# Altium integrated library Altera APEX 20K.IntLib: 93 symbols (part 12 of 14)
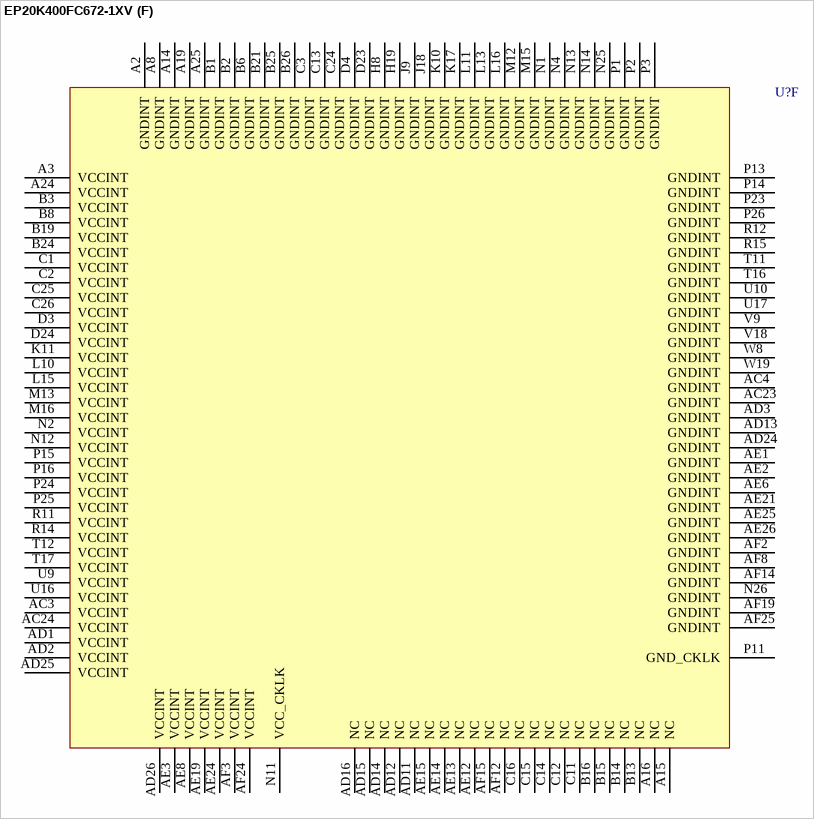
[diagram p210: symbol EP20K400FC672-1XV]

## EP20K400FC672-1XV
designator U?
APEX 20K400 PLD with PLLs and 5 V tolerant inputs, 672-Pin FBGA, Commercial Grade, Speed Grade 1; ComponentAvailability: Last order accepted - 22-Jul-2005; Published: 17-Jul-2002; LatestRevisionDate: 13-Apr-2006; LatestRevisionNote: IPC-7351 Footprint Added.; DatasheetVersion: Mar-2004; PackageVersion: ver14.1, Oct-2005; PackageReference: FBGA672; Publisher: Altium Limited; PackageDescription: 672-Ball FineLine Ball Grid Array (FBGA672) - Flip Chip; Code_JEDEC: MS-034-AAL-1; ComponentLink1Description: Manufacturer Link; ComponentLink1URL: http://www.altera.com/products/devices/apex/apx-index.html; ComponentLink2Description: Datasheet; ComponentLink2URL: http://www.altera.com/literature/ds/apex.pdf; ComponentLink3Description: Discontinuation Notice; ComponentLink3URL: http://www.altera.com/literature/pcn/pdn0401.pdf
footprint FBGA672 (BGA, 672-Leads, Body 27x27mm, Pitch 1mm)
3D model EP20K400-FBGA672T (672-Ball FineLine Ball Grid Array (FBGA672) - Flip Chip)
part A pins: A4 IO (io), A5 IO (io), A6 VCCIO (power), A7 IO (io), A9 IO (io), A10 IO (io), A11 IO (io), A12 IO (io), A13 VCCIO (power), A17 IO (io), A18 IO (io), A20 IO (io), A22 IO (io), A23 IO (io), B4 IO (io), B5 IO (io), B7 IO (io), B9 IO (io), B10 IO (io), B11 IO (io), B12 IO (io), B17 IO (io), B18 IO (io), B20 IO (io), B22 IO (io), B23 IO (io), C5 IO (io), C6 IO (io), C7 IO (io), C8 IO (io), C9 IO (io), C10 IO (io), C17 IO (io), C18 IO (io), C19 IO (io), C20 IO (io), C21 IO (io), C22 IO (io), C23 IO (io), D6 IO (io), D7 IO (io), D8 IO (io), D9 IO (io), D10 IO (io), D11 IO (io), D12 IO (io), D13 IO (io), D14 IO (io), D15 IO (io), D16 IO (io), D17 IO (io), D18 IO (io), D19 IO (io), D20 IO (io), D21 IO (io), D22 IO (io), E6 IO (io), E7 IO (io), E8 IO (io), E9 IO (io), E10 IO (io), E11 IO (io), E12 IO (io), E13 IO (io), E14 IO (io), E15 IO (io), E16 IO (io), E17 IO (io), E18 IO (io), E19 IO (io), E20 IO (io), E21 IO (io), E23 IO (io), E24 IO (io), F6 DATA5 (io), F7 IO (io), F8 IO (io), F9 IO (io), F10 DATA3 (io), F11 IO (io), F12 IO (io), F13 INPUT2 (in), F15 IO (io), F16 IO (io), F17 IO (io), F18 IO (io), F19 IO (io), F20 IO (io), F23 IO (io), F24 IO (io), G9 DATA4 (io), G10 IO (io), G11 IO (io), G12 IO (io), G15 IO (io), G16 IO (io), G17 IO (io), G18 IO (io), G19 IO (io), G23 IO (io), H10 IO (io), H11 IO (io), H12 IO (io), H13 IO (io), H14 INPUT1 (in), H15 IO (io), H16 IO (io), H17 IO (io), H18 IO (io), H23 IO (io), J10 VCCIO (power), J11 IO (io), J12 DATA2 (io), J13 IO (io), J14 RDYnBSY (io), J15 INIT_DONE (io), J16 IO (io), J17 IO (io), J19 IO (io), K12 IO (io), K13 DATA1 (io), K14 CLKUSR (io), K15 IO (io), K16 VCCIO (power), K18 IO (io), L12 VCCIO (power), L14 IO (io), M14 VCCIO (power)
part B pins: A21 VCCIO (power), AA21 IO (io), AA22 IO (io), AA25 IO (io), AA26 IO (io), AB21 IO (io), AB22 IO (io), AB25 IO (io), AB26 IO (io), AC25 IO (io), AC26 IO (io), AF20 IO (io), AF23 IO (io), D25 IO (io), D26 IO (io), E22 IO (io), E25 IO (io), E26 IO (io), F21 IO (io), F22 IO (io), F25 IO (io), F26 IO (io), G20 IO (io), G21 IO (io), G22 IO (io), G24 IO (io), G25 IO (io), G26 IO (io), H20 IO (io), H21 IO (io), H22 IO (io), H24 IO (io), H25 IO (io), H26 IO (io), J20 IO (io), J21 IO (io), J22 IO (io), J23 IO (io), J24 IO (io), J25 IO (io), J26 IO (io), K19 IO (io), K20 IO (io), K21 IO (io), K22 IO (io), K23 IO (io), K24 IO (io), K25 IO (io), K26 IO (io), L17 VCCIO (power), L18 IO (io), L19 IO (io), L20 IO (io), L21 IO (io), L22 IO (io), L23 IO (io), L24 IO (io), L25 IO (io), L26 IO (io), M17 IO (io), M18 IO (io), M19 IO (io), M20 IO (io), M21 IO (io), M22 IO (io), M23 IO (io), M24 IO (io), M25 IO (io), M26 IO (io), N15 VCCIO (power), N16 IO (io), N17 IO (io), N18 IO (io), N19 IO (io), N22 IO (io), N23 IO (io), N24 VCCIO (power), P17 IO (io), P18 IO (io), P19 IO (io), P20 CLK1 (in), P22 IO (io), R16 VCCIO (power), R17 IO (io), R18 IO (io), R19 IO (io), R20 IO (io), R21 IO (io), R22 IO (io), R23 IO (io), R24 IO (io), R25 IO (io), R26 IO (io), T18 IO (io), T19 IO (io), T20 IO (io), T21 IO (io), T22 IO (io), T23 IO (io), T24 IO (io), T25 IO (io), T26 IO (io), U18 VCCIO (power), U19 IO (io), U20 IO (io), U21 IO (io), U22 IO (io), U23 IO (io), U24 IO (io), U25 IO (io), U26 IO (io), V19 IO (io), V20 IO (io), V21 IO (io), V22 IO (io), V23 IO (io), V24 IO (io), V25 IO (io), V26 IO (io), W21 IO (io), W22 IO (io), W23 IO (io), W24 IO (io), W25 IO (io), W26 IO (io), Y21 IO (io), Y22 IO (io), Y25 IO (io), Y26 IO (io)
part C pins: AA3 IO (io), AA4 IO (io), AA8 IO (io), AA9 IO (io), AA10 IO (io), AA11 IO (io), AA16 IO (io), AA17 IO (io), AA18 IO (io), AA19 IO (io), AA20 IO (io), AA23 IO (io), AA24 IO (io), AB3 IO (io), AB4 IO (io), AB7 IO (io), AB8 IO (io), AB9 IO (io), AB10 IO (io), AB11 IO (io), AB12 IO (io), AB13 IO (io), AB14 IO (io), AB15 IO (io), AB16 IO (io), AB17 IO (io), AB18 IO (io), AB19 IO (io), AB20 IO (io), AB23 IO (io), AB24 IO (io), AC5 IO (io), AC6 IO (io), AC7 IO (io), AC8 IO (io), AC9 IO (io), AC10 IO (io), AC11 IO (io), AC12 IO (io), AC13 IO (io), AC14 IO (io), AC15 IO (io), AC16 IO (io), AC17 IO (io), AC18 IO (io), AC19 IO (io), AC20 IO (io), AC21 IO (io), AC22 IO (io), AD4 IO (io), AD5 IO (io), AD6 IO (io), AD7 IO (io), AD8 IO (io), AD9 IO (io), AD10 IO (io), AD17 IO (io), AD18 IO (io), AD19 IO (io), AD20 IO (io), AD21 IO (io), AD22 IO (io), AD23 IO (io), AE4 IO (io), AE5 IO (io), AE7 IO (io), AE9 IO (io), AE10 IO (io), AE11 IO (io), AE16 IO (io), AE17 IO (io), AE18 IO (io), AE20 IO (io), AE22 IO (io), AE23 IO (io), AF4 IO (io), AF5 IO (io), AF7 IO (io), AF9 IO (io), AF10 IO (io), AF11 IO (io), AF13 VCCIO (power), AF16 IO (io), AF17 IO (io), AF18 IO (io), AF21 VCCIO (power), AF22 IO (io), R13 VCCIO (power), T9 IO (io), T13 IO (io), T14 IO (io), T15 VCCIO (power), U11 VCCIO (power), U12 IO (io), U13 IO (io), U14 IO (io), U15 IO (io), V8 IO (io), V10 VCCIO (power), V11 IO (io), V12 IO (io), V13 IO (io), V14 IO (io), V15 IO (io), V16 IO (io), V17 VCCIO (power), W9 IO (io), W10 IO (io), W11 IO (io), W12 IO (io), W13 IO (io), W14 IO (io), W15 IO (io), W16 IO (io), W17 IO (io), W18 IO (io), W20 IO (io), Y3 IO (io), Y4 IO (io), Y7 IO (io), Y8 IO (io), Y9 IO (io), Y10 IO (io), Y11 IO (io), Y12 IO (io), Y13 INPUT4 (in), Y14 INPUT3 (in), Y15 IO (io), Y16 IO (io), Y17 IO (io), Y18 IO (io), Y19 IO (io), Y20 IO (io), Y23 IO (io), Y24 IO (io)
part D pins: AA1 IO (io), AA2 IO (io), AA5 IO (io), AA6 IO (io), AA7 IO (io), AB1 IO (io), AB2 IO (io), AB5 IO (io), AB6 IO (io), AC1 IO (io), AC2 IO (io), AF6 VCCIO (power), C4 IO (io), D1 IO (io), D2 IO (io), D5 IO (io), E1 IO (io), E2 IO (io), E3 IO (io), E4 IO (io), E5 IO (io), F1 IO (io), F2 IO (io), F3 IO (io), F4 IO (io), F5 IO (io), G1 IO (io), G2 IO (io), G3 IO (io), G4 IO (io), G5 IO (io), G6 IO (io), G7 IO (io), G8 IO (io), H1 IO (io), H2 IO (io), H3 IO (io), H4 IO (io), H5 IO (io), H6 IO (io), H7 IO (io), H9 IO (io), J1 IO (io), J2 IO (io), J3 IO (io), J4 IO (io), J5 IO (io), J6 IO (io), J7 IO (io), J8 IO (io), K1 IO (io), K2 IO (io), K3 IO (io), K4 IO (io), K5 IO (io), K6 IO (io), K7 IO (io), K8 IO (io), K9 VCCIO (power), L1 IO (io), L2 IO (io), L3 IO (io), L4 IO (io), L5 IO (io), L6 IO (io), L7 IO (io), L8 DATA6 (io), L9 IO (io), M1 IO (io), M2 IO (io), M3 IO (io), M4 IO (io), M5 IO (io), M6 IO (io), M7 IO (io), M8 IO (io), M9 nCS (io), M10 DATA7 (io), M11 VCCIO (power), N3 VCCIO (power), N5 IO (io), N8 CLK2 (in), N9 IO (io), N10 nRS (io), P4 IO (io), P5 IO (io), P8 IO (io), P9 nWS (io), P10 IO (io), P12 VCCIO (power), R1 IO (io), R2 IO (io), R3 IO (io), R4 IO (io), R5 IO (io), R6 IO (io), R7 IO (io), R8 DEV_OE (io), R9 DEV_CLRn (io), R10 IO (io), T1 IO (io), T2 IO (io), T3 IO (io), T4 IO (io), T5 IO (io), T6 CS (io), T7 IO (io), T8 IO (io), T10 VCCIO (power), U1 IO (io), U2 IO (io), U3 IO (io), U4 IO (io), U5 IO (io), U6 LOCK (io), U7 IO (io), U8 IO (io), V1 IO (io), V2 IO (io), V3 IO (io), V4 IO (io), V5 IO (io), V6 IO (io), V7 IO (io), W1 IO (io), W2 IO (io), W3 IO (io), W4 IO (io), W5 IO (io), W6 IO (io), W7 IO (io), Y1 IO (io), Y2 IO (io), Y5 IO (io), Y6 IO (io)
part E pins: AA12 CONF_DONE (io), AA13 nSTATUS (io), AA14 TCK (in), AA15 TMS (in), F14 TRST (in), G13 TDO (out), G14 nCEO (out), N6 DATA0 (in), N7 DCLK (in), N20 MSEL1 (in), N21 MSEL0 (in), P6 nCE (in), P7 TDI (in), P21 nCONFIG (in)
part F pins: A2 GNDINT (power), A3 VCCINT (power), A8 GNDINT (power), A14 GNDINT (power), A15 NC, A16 NC, A19 GNDINT (power), A24 VCCINT (power), A25 GNDINT (power), AC3 VCCINT (power), AC4 GNDINT (power), AC23 GNDINT (power), AC24 VCCINT (power), AD1 VCCINT (power), AD2 VCCINT (power), AD3 GNDINT (power), AD11 NC, AD12 NC, AD13 GNDINT (power), AD14 NC, AD15 NC, AD16 NC, AD24 GNDINT (power), AD25 VCCINT (power), AD26 VCCINT (power), AE1 GNDINT (power), AE2 GNDINT (power), AE3 VCCINT (power), AE6 GNDINT (power), AE8 VCCINT (power), AE12 NC, AE13 NC, AE14 NC, AE15 NC, AE19 VCCINT (power), AE21 GNDINT (power), AE24 VCCINT (power), AE25 GNDINT (power), AE26 GNDINT (power), AF2 GNDINT (power), AF3 VCCINT (power), AF8 GNDINT (power), AF12 NC, AF14 GNDINT (power), AF15 NC, AF19 GNDINT (power), AF24 VCCINT (power), AF25 GNDINT (power), B1 GNDINT (power), B2 GNDINT (power), B3 VCCINT (power), B6 GNDINT (power), B8 VCCINT (power), B13 NC, B14 NC, B15 NC, B16 NC, B19 VCCINT (power), B21 GNDINT (power), B24 VCCINT (power), B25 GNDINT (power), B26 GNDINT (power), C1 VCCINT (power), C2 VCCINT (power), C3 GNDINT (power), C11 NC, C12 NC, C13 GNDINT (power), C14 NC, C15 NC, C16 NC, C24 GNDINT (power), C25 VCCINT (power), C26 VCCINT (power), D3 VCCINT (power), D4 GNDINT (power), D23 GNDINT (power), D24 VCCINT (power), H8 GNDINT (power), H19 GNDINT (power), J9 GNDINT (power), J18 GNDINT (power), K10 GNDINT (power), K11 VCCINT (power), K17 GNDINT (power), L10 VCCINT (power), L11 GNDINT (power), L13 GNDINT (power), L15 VCCINT (power), L16 GNDINT (power), M12 GNDINT (power), M13 VCCINT (power), M15 GNDINT (power), M16 VCCINT (power), N1 GNDINT (power), N2 VCCINT (power), N4 GNDINT (power), N11 VCC_CKLK (power), N12 VCCINT (power), N13 GNDINT (power), N14 GNDINT (power), N25 GNDINT (power), N26 GNDINT (power), P1 GNDINT (power), P2 GNDINT (power), P3 GNDINT (power), P11 GND_CKLK (power), P13 GNDINT (power), P14 GNDINT (power), P15 VCCINT (power), P16 VCCINT (power), P23 GNDINT (power), P24 VCCINT (power), P25 VCCINT (power), P26 GNDINT (power), R11 VCCINT (power), R12 GNDINT (power), R14 VCCINT (power), R15 GNDINT (power), T11 GNDINT (power), T12 VCCINT (power), T16 GNDINT (power), T17 VCCINT (power), U9 VCCINT (power), U10 GNDINT (power), U16 VCCINT (power), U17 GNDINT (power), V9 GNDINT (power), V18 GNDINT (power), W8 GNDINT (power), W19 GNDINT (power)

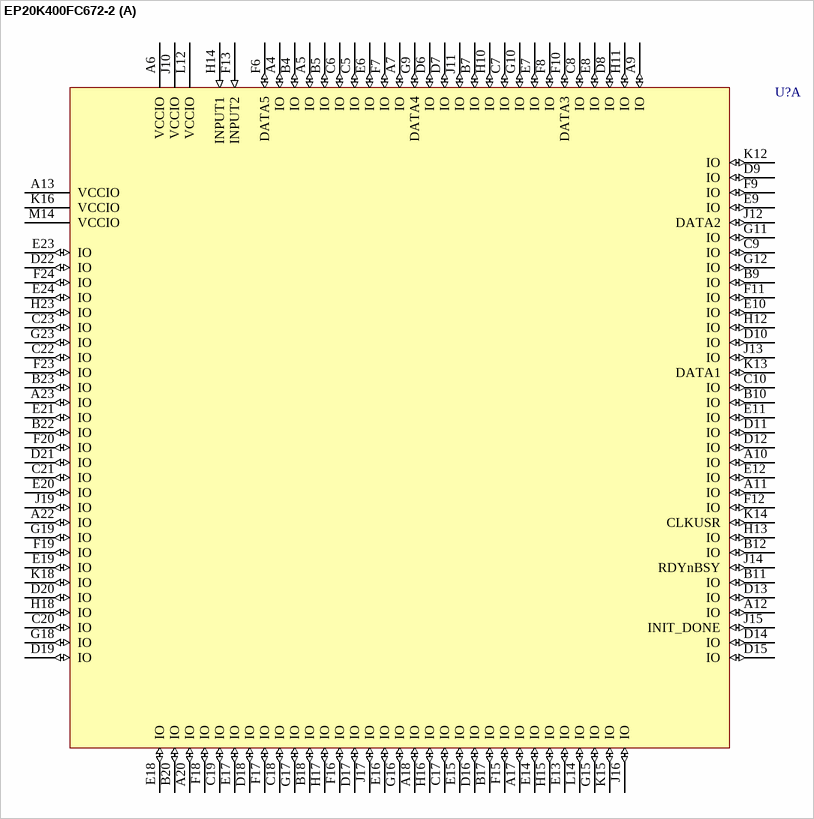
[diagram p153: symbol EP20K400FC672-2]

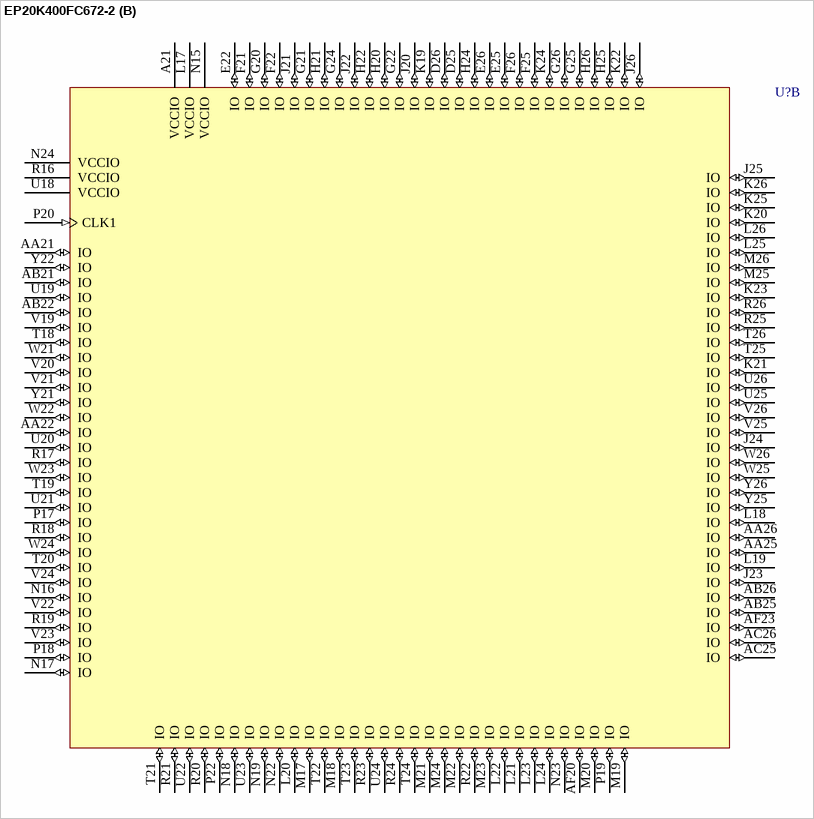
[diagram p154: symbol EP20K400FC672-2]

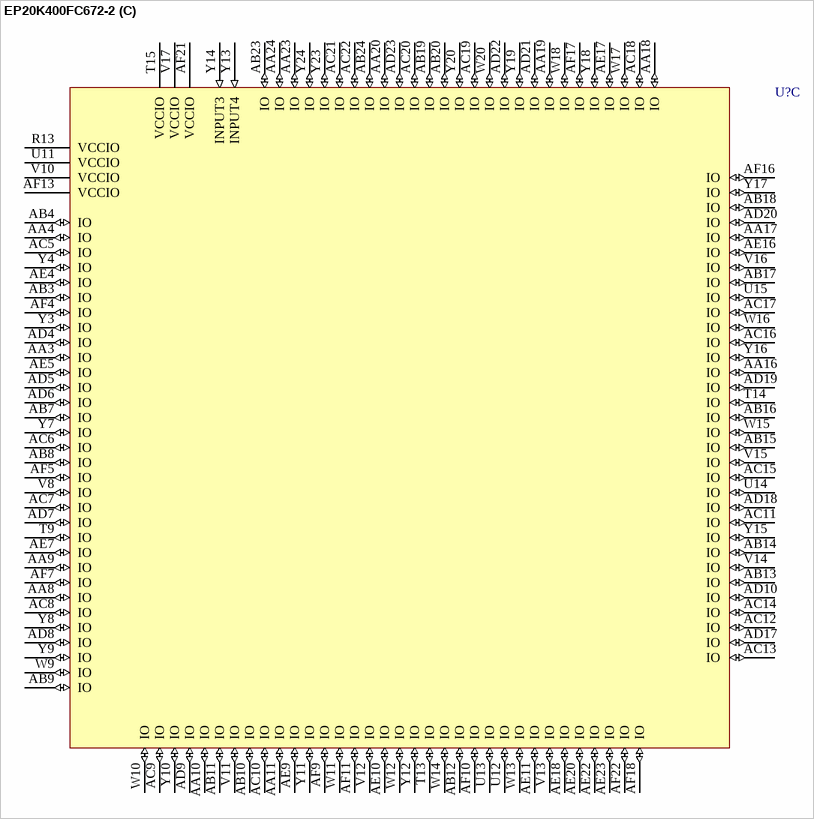
[diagram p155: symbol EP20K400FC672-2]

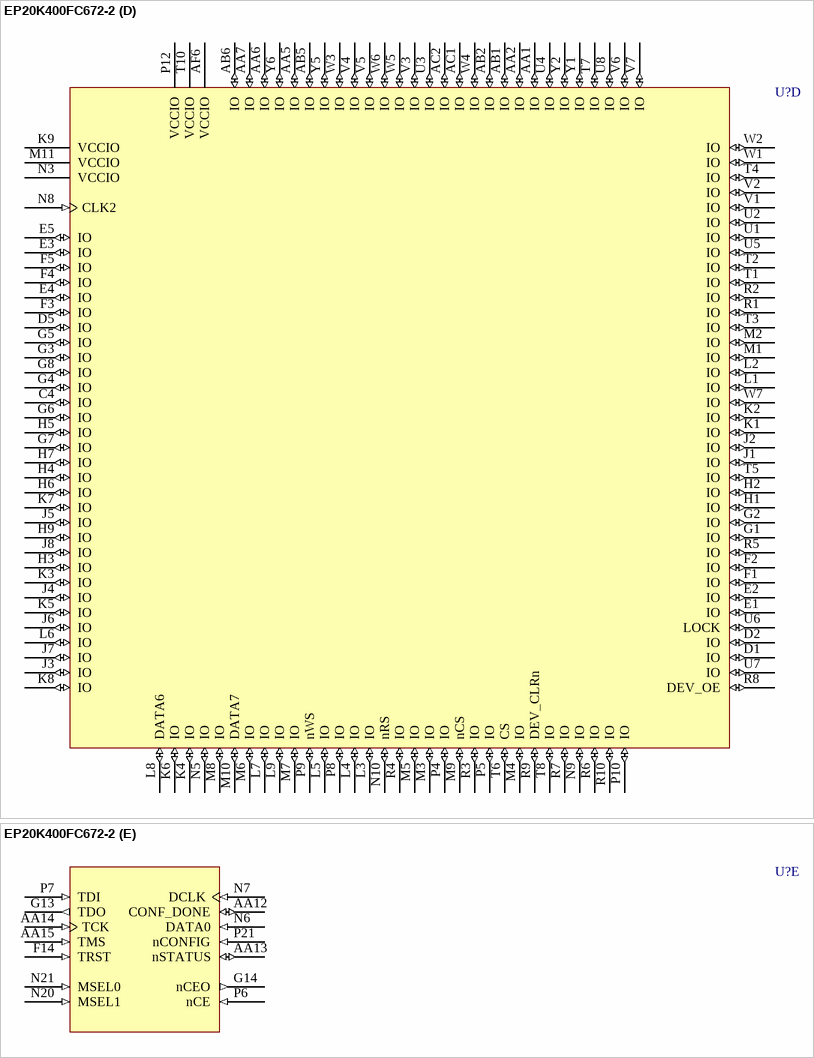
[diagram p156: symbol EP20K400FC672-2]

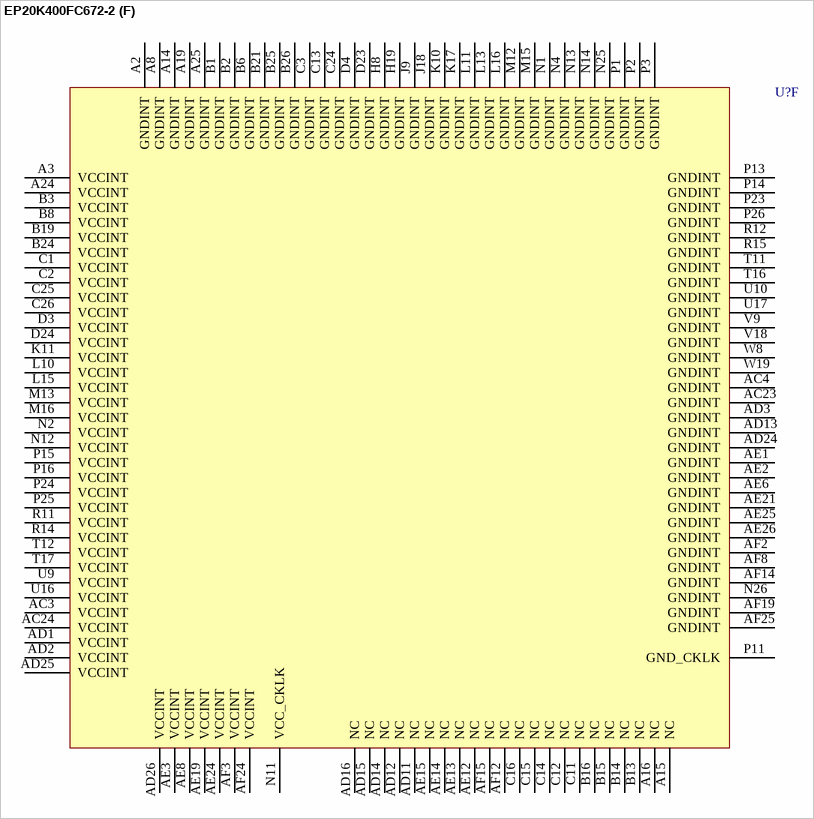
[diagram p157: symbol EP20K400FC672-2]

## EP20K400FC672-2
designator U?
APEX 20K400 PLD, 672-Pin FBGA, Commercial Grade, Speed Grade 2; Published: 17-Jul-2002; LatestRevisionDate: 13-Apr-2006; LatestRevisionNote: IPC-7351 Footprint Added.; DatasheetVersion: Mar-2004; PackageVersion: ver14.1, Oct-2005; PackageReference: FBGA672; Publisher: Altium Limited; PackageDescription: 672-Ball FineLine Ball Grid Array (FBGA672) - Flip Chip; Code_JEDEC: MS-034-AAL-1; ComponentLink1Description: Manufacturer Link; ComponentLink1URL: http://www.altera.com/products/devices/apex/apx-index.html; ComponentLink2Description: Datasheet; ComponentLink2URL: http://www.altera.com/literature/ds/apex.pdf
footprint FBGA672 (BGA, 672-Leads, Body 27x27mm, Pitch 1mm)
3D model EP20K400-FBGA672T (672-Ball FineLine Ball Grid Array (FBGA672) - Flip Chip)
part A pins: A4 IO (io), A5 IO (io), A6 VCCIO (power), A7 IO (io), A9 IO (io), A10 IO (io), A11 IO (io), A12 IO (io), A13 VCCIO (power), A17 IO (io), A18 IO (io), A20 IO (io), A22 IO (io), A23 IO (io), B4 IO (io), B5 IO (io), B7 IO (io), B9 IO (io), B10 IO (io), B11 IO (io), B12 IO (io), B17 IO (io), B18 IO (io), B20 IO (io), B22 IO (io), B23 IO (io), C5 IO (io), C6 IO (io), C7 IO (io), C8 IO (io), C9 IO (io), C10 IO (io), C17 IO (io), C18 IO (io), C19 IO (io), C20 IO (io), C21 IO (io), C22 IO (io), C23 IO (io), D6 IO (io), D7 IO (io), D8 IO (io), D9 IO (io), D10 IO (io), D11 IO (io), D12 IO (io), D13 IO (io), D14 IO (io), D15 IO (io), D16 IO (io), D17 IO (io), D18 IO (io), D19 IO (io), D20 IO (io), D21 IO (io), D22 IO (io), E6 IO (io), E7 IO (io), E8 IO (io), E9 IO (io), E10 IO (io), E11 IO (io), E12 IO (io), E13 IO (io), E14 IO (io), E15 IO (io), E16 IO (io), E17 IO (io), E18 IO (io), E19 IO (io), E20 IO (io), E21 IO (io), E23 IO (io), E24 IO (io), F6 DATA5 (io), F7 IO (io), F8 IO (io), F9 IO (io), F10 DATA3 (io), F11 IO (io), F12 IO (io), F13 INPUT2 (in), F15 IO (io), F16 IO (io), F17 IO (io), F18 IO (io), F19 IO (io), F20 IO (io), F23 IO (io), F24 IO (io), G9 DATA4 (io), G10 IO (io), G11 IO (io), G12 IO (io), G15 IO (io), G16 IO (io), G17 IO (io), G18 IO (io), G19 IO (io), G23 IO (io), H10 IO (io), H11 IO (io), H12 IO (io), H13 IO (io), H14 INPUT1 (in), H15 IO (io), H16 IO (io), H17 IO (io), H18 IO (io), H23 IO (io), J10 VCCIO (power), J11 IO (io), J12 DATA2 (io), J13 IO (io), J14 RDYnBSY (io), J15 INIT_DONE (io), J16 IO (io), J17 IO (io), J19 IO (io), K12 IO (io), K13 DATA1 (io), K14 CLKUSR (io), K15 IO (io), K16 VCCIO (power), K18 IO (io), L12 VCCIO (power), L14 IO (io), M14 VCCIO (power)
part B pins: A21 VCCIO (power), AA21 IO (io), AA22 IO (io), AA25 IO (io), AA26 IO (io), AB21 IO (io), AB22 IO (io), AB25 IO (io), AB26 IO (io), AC25 IO (io), AC26 IO (io), AF20 IO (io), AF23 IO (io), D25 IO (io), D26 IO (io), E22 IO (io), E25 IO (io), E26 IO (io), F21 IO (io), F22 IO (io), F25 IO (io), F26 IO (io), G20 IO (io), G21 IO (io), G22 IO (io), G24 IO (io), G25 IO (io), G26 IO (io), H20 IO (io), H21 IO (io), H22 IO (io), H24 IO (io), H25 IO (io), H26 IO (io), J20 IO (io), J21 IO (io), J22 IO (io), J23 IO (io), J24 IO (io), J25 IO (io), J26 IO (io), K19 IO (io), K20 IO (io), K21 IO (io), K22 IO (io), K23 IO (io), K24 IO (io), K25 IO (io), K26 IO (io), L17 VCCIO (power), L18 IO (io), L19 IO (io), L20 IO (io), L21 IO (io), L22 IO (io), L23 IO (io), L24 IO (io), L25 IO (io), L26 IO (io), M17 IO (io), M18 IO (io), M19 IO (io), M20 IO (io), M21 IO (io), M22 IO (io), M23 IO (io), M24 IO (io), M25 IO (io), M26 IO (io), N15 VCCIO (power), N16 IO (io), N17 IO (io), N18 IO (io), N19 IO (io), N22 IO (io), N23 IO (io), N24 VCCIO (power), P17 IO (io), P18 IO (io), P19 IO (io), P20 CLK1 (in), P22 IO (io), R16 VCCIO (power), R17 IO (io), R18 IO (io), R19 IO (io), R20 IO (io), R21 IO (io), R22 IO (io), R23 IO (io), R24 IO (io), R25 IO (io), R26 IO (io), T18 IO (io), T19 IO (io), T20 IO (io), T21 IO (io), T22 IO (io), T23 IO (io), T24 IO (io), T25 IO (io), T26 IO (io), U18 VCCIO (power), U19 IO (io), U20 IO (io), U21 IO (io), U22 IO (io), U23 IO (io), U24 IO (io), U25 IO (io), U26 IO (io), V19 IO (io), V20 IO (io), V21 IO (io), V22 IO (io), V23 IO (io), V24 IO (io), V25 IO (io), V26 IO (io), W21 IO (io), W22 IO (io), W23 IO (io), W24 IO (io), W25 IO (io), W26 IO (io), Y21 IO (io), Y22 IO (io), Y25 IO (io), Y26 IO (io)
part C pins: AA3 IO (io), AA4 IO (io), AA8 IO (io), AA9 IO (io), AA10 IO (io), AA11 IO (io), AA16 IO (io), AA17 IO (io), AA18 IO (io), AA19 IO (io), AA20 IO (io), AA23 IO (io), AA24 IO (io), AB3 IO (io), AB4 IO (io), AB7 IO (io), AB8 IO (io), AB9 IO (io), AB10 IO (io), AB11 IO (io), AB12 IO (io), AB13 IO (io), AB14 IO (io), AB15 IO (io), AB16 IO (io), AB17 IO (io), AB18 IO (io), AB19 IO (io), AB20 IO (io), AB23 IO (io), AB24 IO (io), AC5 IO (io), AC6 IO (io), AC7 IO (io), AC8 IO (io), AC9 IO (io), AC10 IO (io), AC11 IO (io), AC12 IO (io), AC13 IO (io), AC14 IO (io), AC15 IO (io), AC16 IO (io), AC17 IO (io), AC18 IO (io), AC19 IO (io), AC20 IO (io), AC21 IO (io), AC22 IO (io), AD4 IO (io), AD5 IO (io), AD6 IO (io), AD7 IO (io), AD8 IO (io), AD9 IO (io), AD10 IO (io), AD17 IO (io), AD18 IO (io), AD19 IO (io), AD20 IO (io), AD21 IO (io), AD22 IO (io), AD23 IO (io), AE4 IO (io), AE5 IO (io), AE7 IO (io), AE9 IO (io), AE10 IO (io), AE11 IO (io), AE16 IO (io), AE17 IO (io), AE18 IO (io), AE20 IO (io), AE22 IO (io), AE23 IO (io), AF4 IO (io), AF5 IO (io), AF7 IO (io), AF9 IO (io), AF10 IO (io), AF11 IO (io), AF13 VCCIO (power), AF16 IO (io), AF17 IO (io), AF18 IO (io), AF21 VCCIO (power), AF22 IO (io), R13 VCCIO (power), T9 IO (io), T13 IO (io), T14 IO (io), T15 VCCIO (power), U11 VCCIO (power), U12 IO (io), U13 IO (io), U14 IO (io), U15 IO (io), V8 IO (io), V10 VCCIO (power), V11 IO (io), V12 IO (io), V13 IO (io), V14 IO (io), V15 IO (io), V16 IO (io), V17 VCCIO (power), W9 IO (io), W10 IO (io), W11 IO (io), W12 IO (io), W13 IO (io), W14 IO (io), W15 IO (io), W16 IO (io), W17 IO (io), W18 IO (io), W20 IO (io), Y3 IO (io), Y4 IO (io), Y7 IO (io), Y8 IO (io), Y9 IO (io), Y10 IO (io), Y11 IO (io), Y12 IO (io), Y13 INPUT4 (in), Y14 INPUT3 (in), Y15 IO (io), Y16 IO (io), Y17 IO (io), Y18 IO (io), Y19 IO (io), Y20 IO (io), Y23 IO (io), Y24 IO (io)
part D pins: AA1 IO (io), AA2 IO (io), AA5 IO (io), AA6 IO (io), AA7 IO (io), AB1 IO (io), AB2 IO (io), AB5 IO (io), AB6 IO (io), AC1 IO (io), AC2 IO (io), AF6 VCCIO (power), C4 IO (io), D1 IO (io), D2 IO (io), D5 IO (io), E1 IO (io), E2 IO (io), E3 IO (io), E4 IO (io), E5 IO (io), F1 IO (io), F2 IO (io), F3 IO (io), F4 IO (io), F5 IO (io), G1 IO (io), G2 IO (io), G3 IO (io), G4 IO (io), G5 IO (io), G6 IO (io), G7 IO (io), G8 IO (io), H1 IO (io), H2 IO (io), H3 IO (io), H4 IO (io), H5 IO (io), H6 IO (io), H7 IO (io), H9 IO (io), J1 IO (io), J2 IO (io), J3 IO (io), J4 IO (io), J5 IO (io), J6 IO (io), J7 IO (io), J8 IO (io), K1 IO (io), K2 IO (io), K3 IO (io), K4 IO (io), K5 IO (io), K6 IO (io), K7 IO (io), K8 IO (io), K9 VCCIO (power), L1 IO (io), L2 IO (io), L3 IO (io), L4 IO (io), L5 IO (io), L6 IO (io), L7 IO (io), L8 DATA6 (io), L9 IO (io), M1 IO (io), M2 IO (io), M3 IO (io), M4 IO (io), M5 IO (io), M6 IO (io), M7 IO (io), M8 IO (io), M9 nCS (io), M10 DATA7 (io), M11 VCCIO (power), N3 VCCIO (power), N5 IO (io), N8 CLK2 (in), N9 IO (io), N10 nRS (io), P4 IO (io), P5 IO (io), P8 IO (io), P9 nWS (io), P10 IO (io), P12 VCCIO (power), R1 IO (io), R2 IO (io), R3 IO (io), R4 IO (io), R5 IO (io), R6 IO (io), R7 IO (io), R8 DEV_OE (io), R9 DEV_CLRn (io), R10 IO (io), T1 IO (io), T2 IO (io), T3 IO (io), T4 IO (io), T5 IO (io), T6 CS (io), T7 IO (io), T8 IO (io), T10 VCCIO (power), U1 IO (io), U2 IO (io), U3 IO (io), U4 IO (io), U5 IO (io), U6 LOCK (io), U7 IO (io), U8 IO (io), V1 IO (io), V2 IO (io), V3 IO (io), V4 IO (io), V5 IO (io), V6 IO (io), V7 IO (io), W1 IO (io), W2 IO (io), W3 IO (io), W4 IO (io), W5 IO (io), W6 IO (io), W7 IO (io), Y1 IO (io), Y2 IO (io), Y5 IO (io), Y6 IO (io)
part E pins: AA12 CONF_DONE (io), AA13 nSTATUS (io), AA14 TCK (in), AA15 TMS (in), F14 TRST (in), G13 TDO (out), G14 nCEO (out), N6 DATA0 (in), N7 DCLK (in), N20 MSEL1 (in), N21 MSEL0 (in), P6 nCE (in), P7 TDI (in), P21 nCONFIG (in)
part F pins: A2 GNDINT (power), A3 VCCINT (power), A8 GNDINT (power), A14 GNDINT (power), A15 NC, A16 NC, A19 GNDINT (power), A24 VCCINT (power), A25 GNDINT (power), AC3 VCCINT (power), AC4 GNDINT (power), AC23 GNDINT (power), AC24 VCCINT (power), AD1 VCCINT (power), AD2 VCCINT (power), AD3 GNDINT (power), AD11 NC, AD12 NC, AD13 GNDINT (power), AD14 NC, AD15 NC, AD16 NC, AD24 GNDINT (power), AD25 VCCINT (power), AD26 VCCINT (power), AE1 GNDINT (power), AE2 GNDINT (power), AE3 VCCINT (power), AE6 GNDINT (power), AE8 VCCINT (power), AE12 NC, AE13 NC, AE14 NC, AE15 NC, AE19 VCCINT (power), AE21 GNDINT (power), AE24 VCCINT (power), AE25 GNDINT (power), AE26 GNDINT (power), AF2 GNDINT (power), AF3 VCCINT (power), AF8 GNDINT (power), AF12 NC, AF14 GNDINT (power), AF15 NC, AF19 GNDINT (power), AF24 VCCINT (power), AF25 GNDINT (power), B1 GNDINT (power), B2 GNDINT (power), B3 VCCINT (power), B6 GNDINT (power), B8 VCCINT (power), B13 NC, B14 NC, B15 NC, B16 NC, B19 VCCINT (power), B21 GNDINT (power), B24 VCCINT (power), B25 GNDINT (power), B26 GNDINT (power), C1 VCCINT (power), C2 VCCINT (power), C3 GNDINT (power), C11 NC, C12 NC, C13 GNDINT (power), C14 NC, C15 NC, C16 NC, C24 GNDINT (power), C25 VCCINT (power), C26 VCCINT (power), D3 VCCINT (power), D4 GNDINT (power), D23 GNDINT (power), D24 VCCINT (power), H8 GNDINT (power), H19 GNDINT (power), J9 GNDINT (power), J18 GNDINT (power), K10 GNDINT (power), K11 VCCINT (power), K17 GNDINT (power), L10 VCCINT (power), L11 GNDINT (power), L13 GNDINT (power), L15 VCCINT (power), L16 GNDINT (power), M12 GNDINT (power), M13 VCCINT (power), M15 GNDINT (power), M16 VCCINT (power), N1 GNDINT (power), N2 VCCINT (power), N4 GNDINT (power), N11 VCC_CKLK (power), N12 VCCINT (power), N13 GNDINT (power), N14 GNDINT (power), N25 GNDINT (power), N26 GNDINT (power), P1 GNDINT (power), P2 GNDINT (power), P3 GNDINT (power), P11 GND_CKLK (power), P13 GNDINT (power), P14 GNDINT (power), P15 VCCINT (power), P16 VCCINT (power), P23 GNDINT (power), P24 VCCINT (power), P25 VCCINT (power), P26 GNDINT (power), R11 VCCINT (power), R12 GNDINT (power), R14 VCCINT (power), R15 GNDINT (power), T11 GNDINT (power), T12 VCCINT (power), T16 GNDINT (power), T17 VCCINT (power), U9 VCCINT (power), U10 GNDINT (power), U16 VCCINT (power), U17 GNDINT (power), V9 GNDINT (power), V18 GNDINT (power), W8 GNDINT (power), W19 GNDINT (power)

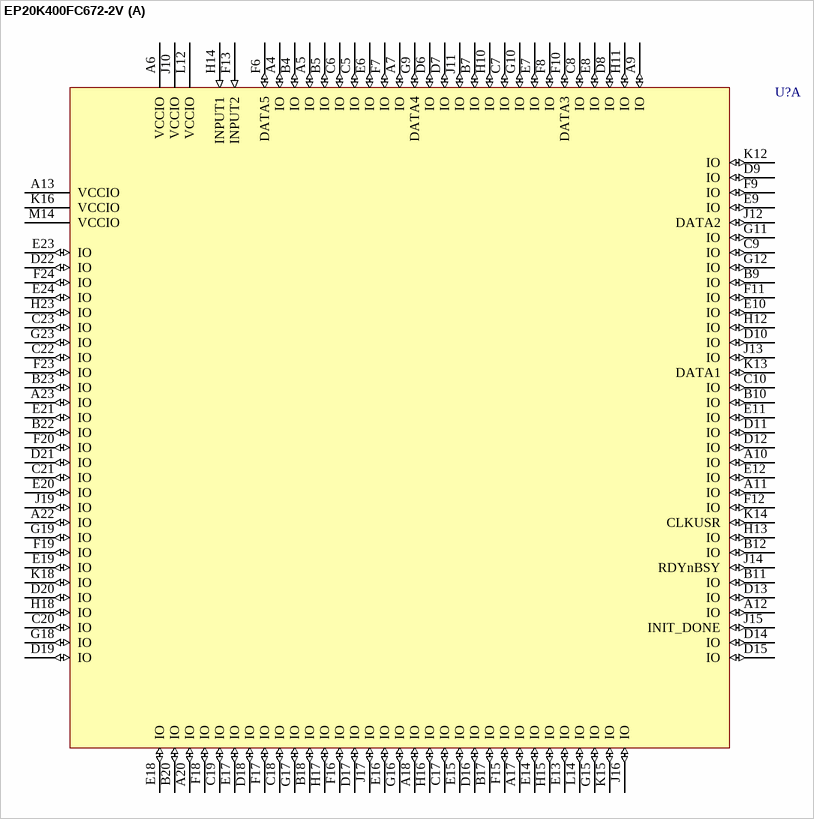
[diagram p158: symbol EP20K400FC672-2V]

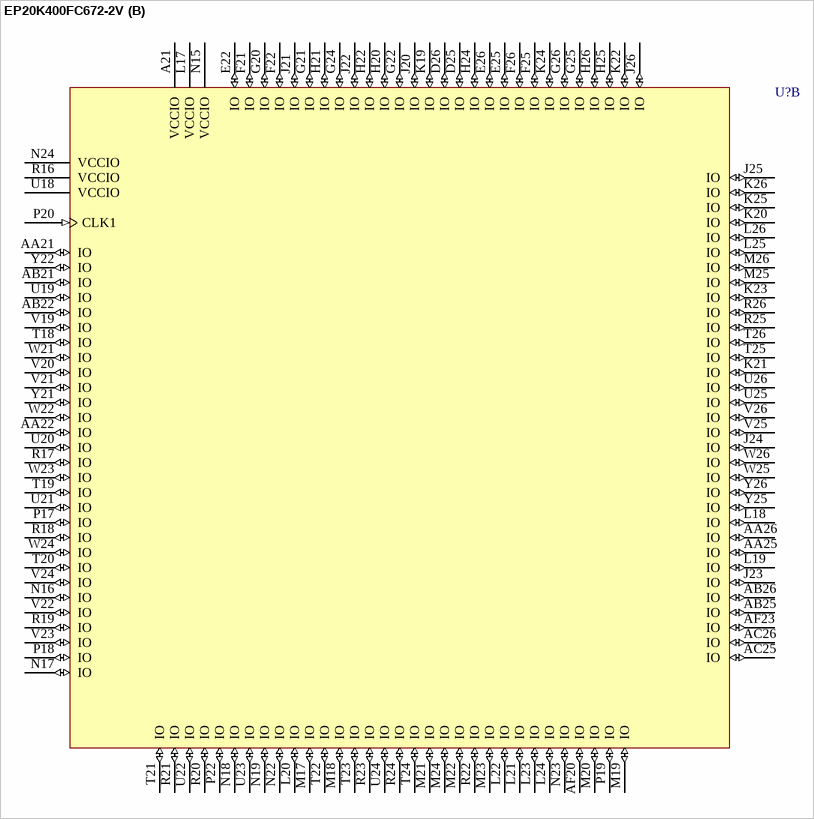
[diagram p159: symbol EP20K400FC672-2V]

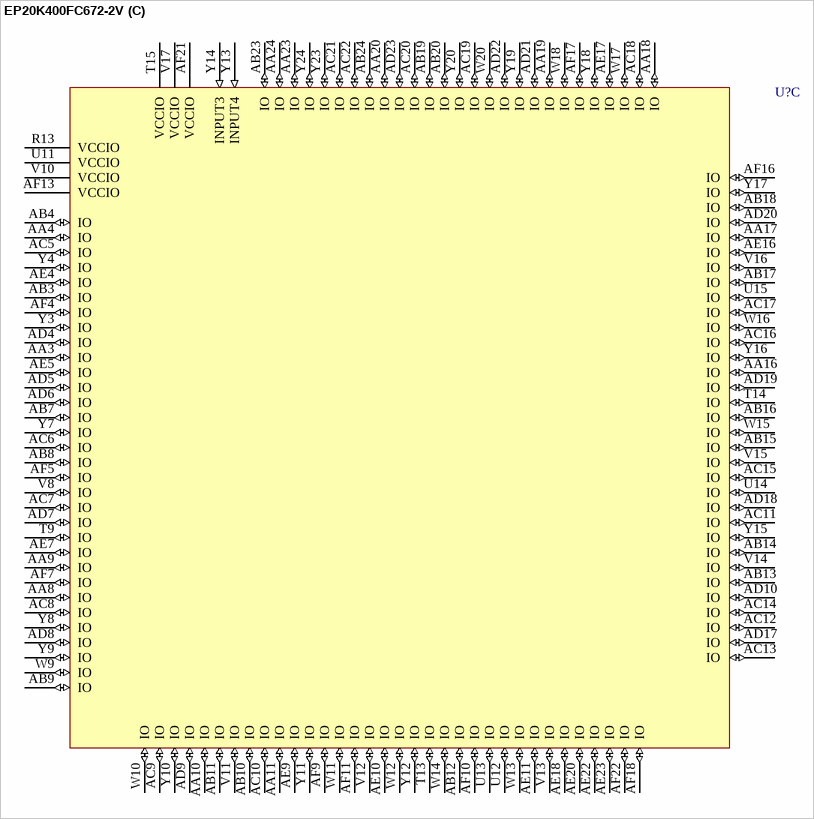
[diagram p160: symbol EP20K400FC672-2V]

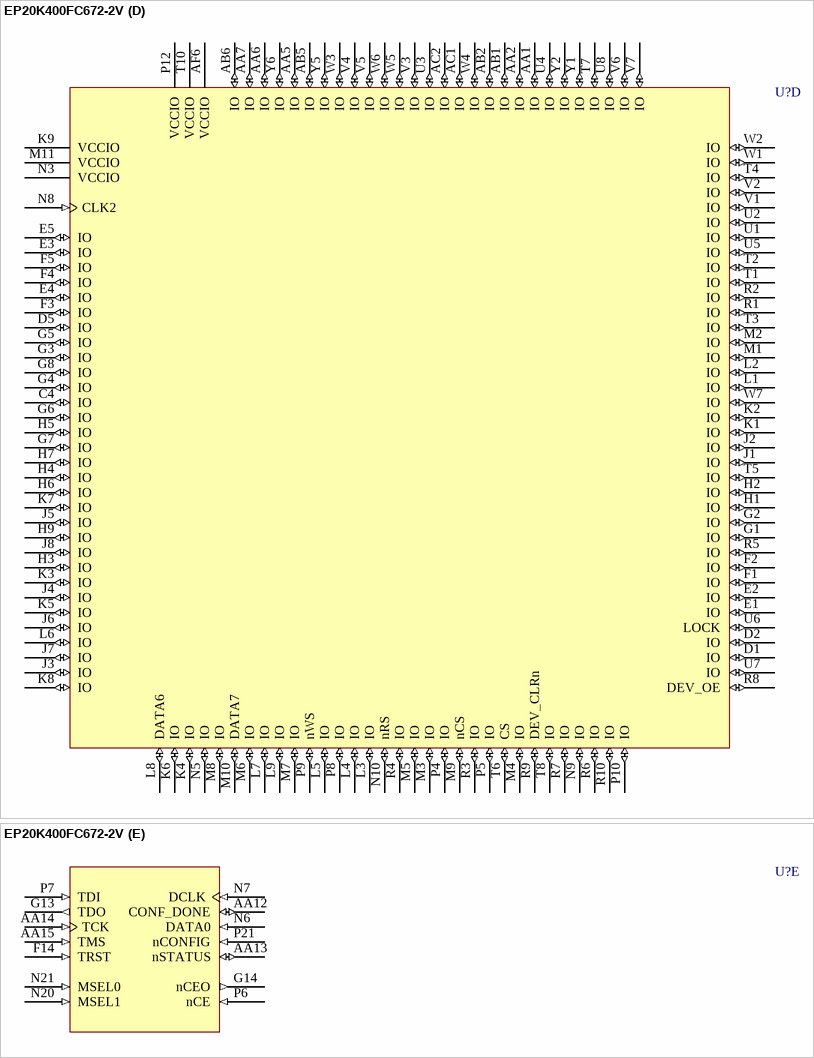
[diagram p161: symbol EP20K400FC672-2V]

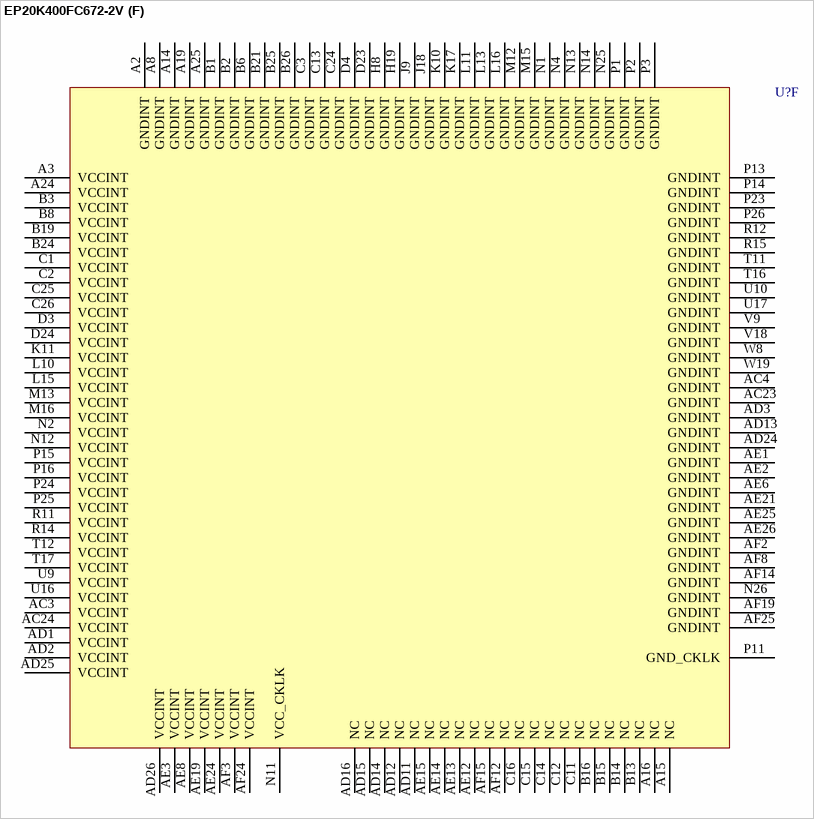
[diagram p162: symbol EP20K400FC672-2V]

## EP20K400FC672-2V
designator U?
APEX 20K400  PLD with 5 V tolerant inputs, 672-Pin FBGA, Commercial Grade, Speed Grade 2; ComponentAvailability: Last order accepted - 22-Jul-2005; Published: 17-Jul-2002; LatestRevisionDate: 13-Apr-2006; LatestRevisionNote: IPC-7351 Footprint Added.; DatasheetVersion: Mar-2004; PackageVersion: ver14.1, Oct-2005; PackageReference: FBGA672; Publisher: Altium Limited; PackageDescription: 672-Ball FineLine Ball Grid Array (FBGA672) - Flip Chip; Code_JEDEC: MS-034-AAL-1; ComponentLink1Description: Manufacturer Link; ComponentLink1URL: http://www.altera.com/products/devices/apex/apx-index.html; ComponentLink2Description: Datasheet; ComponentLink2URL: http://www.altera.com/literature/ds/apex.pdf; ComponentLink3Description: Discontinuation Notice; ComponentLink3URL: http://www.altera.com/literature/pcn/pdn0401.pdf
footprint FBGA672 (BGA, 672-Leads, Body 27x27mm, Pitch 1mm)
3D model EP20K400-FBGA672T (672-Ball FineLine Ball Grid Array (FBGA672) - Flip Chip)
part A pins: A4 IO (io), A5 IO (io), A6 VCCIO (power), A7 IO (io), A9 IO (io), A10 IO (io), A11 IO (io), A12 IO (io), A13 VCCIO (power), A17 IO (io), A18 IO (io), A20 IO (io), A22 IO (io), A23 IO (io), B4 IO (io), B5 IO (io), B7 IO (io), B9 IO (io), B10 IO (io), B11 IO (io), B12 IO (io), B17 IO (io), B18 IO (io), B20 IO (io), B22 IO (io), B23 IO (io), C5 IO (io), C6 IO (io), C7 IO (io), C8 IO (io), C9 IO (io), C10 IO (io), C17 IO (io), C18 IO (io), C19 IO (io), C20 IO (io), C21 IO (io), C22 IO (io), C23 IO (io), D6 IO (io), D7 IO (io), D8 IO (io), D9 IO (io), D10 IO (io), D11 IO (io), D12 IO (io), D13 IO (io), D14 IO (io), D15 IO (io), D16 IO (io), D17 IO (io), D18 IO (io), D19 IO (io), D20 IO (io), D21 IO (io), D22 IO (io), E6 IO (io), E7 IO (io), E8 IO (io), E9 IO (io), E10 IO (io), E11 IO (io), E12 IO (io), E13 IO (io), E14 IO (io), E15 IO (io), E16 IO (io), E17 IO (io), E18 IO (io), E19 IO (io), E20 IO (io), E21 IO (io), E23 IO (io), E24 IO (io), F6 DATA5 (io), F7 IO (io), F8 IO (io), F9 IO (io), F10 DATA3 (io), F11 IO (io), F12 IO (io), F13 INPUT2 (in), F15 IO (io), F16 IO (io), F17 IO (io), F18 IO (io), F19 IO (io), F20 IO (io), F23 IO (io), F24 IO (io), G9 DATA4 (io), G10 IO (io), G11 IO (io), G12 IO (io), G15 IO (io), G16 IO (io), G17 IO (io), G18 IO (io), G19 IO (io), G23 IO (io), H10 IO (io), H11 IO (io), H12 IO (io), H13 IO (io), H14 INPUT1 (in), H15 IO (io), H16 IO (io), H17 IO (io), H18 IO (io), H23 IO (io), J10 VCCIO (power), J11 IO (io), J12 DATA2 (io), J13 IO (io), J14 RDYnBSY (io), J15 INIT_DONE (io), J16 IO (io), J17 IO (io), J19 IO (io), K12 IO (io), K13 DATA1 (io), K14 CLKUSR (io), K15 IO (io), K16 VCCIO (power), K18 IO (io), L12 VCCIO (power), L14 IO (io), M14 VCCIO (power)
part B pins: A21 VCCIO (power), AA21 IO (io), AA22 IO (io), AA25 IO (io), AA26 IO (io), AB21 IO (io), AB22 IO (io), AB25 IO (io), AB26 IO (io), AC25 IO (io), AC26 IO (io), AF20 IO (io), AF23 IO (io), D25 IO (io), D26 IO (io), E22 IO (io), E25 IO (io), E26 IO (io), F21 IO (io), F22 IO (io), F25 IO (io), F26 IO (io), G20 IO (io), G21 IO (io), G22 IO (io), G24 IO (io), G25 IO (io), G26 IO (io), H20 IO (io), H21 IO (io), H22 IO (io), H24 IO (io), H25 IO (io), H26 IO (io), J20 IO (io), J21 IO (io), J22 IO (io), J23 IO (io), J24 IO (io), J25 IO (io), J26 IO (io), K19 IO (io), K20 IO (io), K21 IO (io), K22 IO (io), K23 IO (io), K24 IO (io), K25 IO (io), K26 IO (io), L17 VCCIO (power), L18 IO (io), L19 IO (io), L20 IO (io), L21 IO (io), L22 IO (io), L23 IO (io), L24 IO (io), L25 IO (io), L26 IO (io), M17 IO (io), M18 IO (io), M19 IO (io), M20 IO (io), M21 IO (io), M22 IO (io), M23 IO (io), M24 IO (io), M25 IO (io), M26 IO (io), N15 VCCIO (power), N16 IO (io), N17 IO (io), N18 IO (io), N19 IO (io), N22 IO (io), N23 IO (io), N24 VCCIO (power), P17 IO (io), P18 IO (io), P19 IO (io), P20 CLK1 (in), P22 IO (io), R16 VCCIO (power), R17 IO (io), R18 IO (io), R19 IO (io), R20 IO (io), R21 IO (io), R22 IO (io), R23 IO (io), R24 IO (io), R25 IO (io), R26 IO (io), T18 IO (io), T19 IO (io), T20 IO (io), T21 IO (io), T22 IO (io), T23 IO (io), T24 IO (io), T25 IO (io), T26 IO (io), U18 VCCIO (power), U19 IO (io), U20 IO (io), U21 IO (io), U22 IO (io), U23 IO (io), U24 IO (io), U25 IO (io), U26 IO (io), V19 IO (io), V20 IO (io), V21 IO (io), V22 IO (io), V23 IO (io), V24 IO (io), V25 IO (io), V26 IO (io), W21 IO (io), W22 IO (io), W23 IO (io), W24 IO (io), W25 IO (io), W26 IO (io), Y21 IO (io), Y22 IO (io), Y25 IO (io), Y26 IO (io)
part C pins: AA3 IO (io), AA4 IO (io), AA8 IO (io), AA9 IO (io), AA10 IO (io), AA11 IO (io), AA16 IO (io), AA17 IO (io), AA18 IO (io), AA19 IO (io), AA20 IO (io), AA23 IO (io), AA24 IO (io), AB3 IO (io), AB4 IO (io), AB7 IO (io), AB8 IO (io), AB9 IO (io), AB10 IO (io), AB11 IO (io), AB12 IO (io), AB13 IO (io), AB14 IO (io), AB15 IO (io), AB16 IO (io), AB17 IO (io), AB18 IO (io), AB19 IO (io), AB20 IO (io), AB23 IO (io), AB24 IO (io), AC5 IO (io), AC6 IO (io), AC7 IO (io), AC8 IO (io), AC9 IO (io), AC10 IO (io), AC11 IO (io), AC12 IO (io), AC13 IO (io), AC14 IO (io), AC15 IO (io), AC16 IO (io), AC17 IO (io), AC18 IO (io), AC19 IO (io), AC20 IO (io), AC21 IO (io), AC22 IO (io), AD4 IO (io), AD5 IO (io), AD6 IO (io), AD7 IO (io), AD8 IO (io), AD9 IO (io), AD10 IO (io), AD17 IO (io), AD18 IO (io), AD19 IO (io), AD20 IO (io), AD21 IO (io), AD22 IO (io), AD23 IO (io), AE4 IO (io), AE5 IO (io), AE7 IO (io), AE9 IO (io), AE10 IO (io), AE11 IO (io), AE16 IO (io), AE17 IO (io), AE18 IO (io), AE20 IO (io), AE22 IO (io), AE23 IO (io), AF4 IO (io), AF5 IO (io), AF7 IO (io), AF9 IO (io), AF10 IO (io), AF11 IO (io), AF13 VCCIO (power), AF16 IO (io), AF17 IO (io), AF18 IO (io), AF21 VCCIO (power), AF22 IO (io), R13 VCCIO (power), T9 IO (io), T13 IO (io), T14 IO (io), T15 VCCIO (power), U11 VCCIO (power), U12 IO (io), U13 IO (io), U14 IO (io), U15 IO (io), V8 IO (io), V10 VCCIO (power), V11 IO (io), V12 IO (io), V13 IO (io), V14 IO (io), V15 IO (io), V16 IO (io), V17 VCCIO (power), W9 IO (io), W10 IO (io), W11 IO (io), W12 IO (io), W13 IO (io), W14 IO (io), W15 IO (io), W16 IO (io), W17 IO (io), W18 IO (io), W20 IO (io), Y3 IO (io), Y4 IO (io), Y7 IO (io), Y8 IO (io), Y9 IO (io), Y10 IO (io), Y11 IO (io), Y12 IO (io), Y13 INPUT4 (in), Y14 INPUT3 (in), Y15 IO (io), Y16 IO (io), Y17 IO (io), Y18 IO (io), Y19 IO (io), Y20 IO (io), Y23 IO (io), Y24 IO (io)
part D pins: AA1 IO (io), AA2 IO (io), AA5 IO (io), AA6 IO (io), AA7 IO (io), AB1 IO (io), AB2 IO (io), AB5 IO (io), AB6 IO (io), AC1 IO (io), AC2 IO (io), AF6 VCCIO (power), C4 IO (io), D1 IO (io), D2 IO (io), D5 IO (io), E1 IO (io), E2 IO (io), E3 IO (io), E4 IO (io), E5 IO (io), F1 IO (io), F2 IO (io), F3 IO (io), F4 IO (io), F5 IO (io), G1 IO (io), G2 IO (io), G3 IO (io), G4 IO (io), G5 IO (io), G6 IO (io), G7 IO (io), G8 IO (io), H1 IO (io), H2 IO (io), H3 IO (io), H4 IO (io), H5 IO (io), H6 IO (io), H7 IO (io), H9 IO (io), J1 IO (io), J2 IO (io), J3 IO (io), J4 IO (io), J5 IO (io), J6 IO (io), J7 IO (io), J8 IO (io), K1 IO (io), K2 IO (io), K3 IO (io), K4 IO (io), K5 IO (io), K6 IO (io), K7 IO (io), K8 IO (io), K9 VCCIO (power), L1 IO (io), L2 IO (io), L3 IO (io), L4 IO (io), L5 IO (io), L6 IO (io), L7 IO (io), L8 DATA6 (io), L9 IO (io), M1 IO (io), M2 IO (io), M3 IO (io), M4 IO (io), M5 IO (io), M6 IO (io), M7 IO (io), M8 IO (io), M9 nCS (io), M10 DATA7 (io), M11 VCCIO (power), N3 VCCIO (power), N5 IO (io), N8 CLK2 (in), N9 IO (io), N10 nRS (io), P4 IO (io), P5 IO (io), P8 IO (io), P9 nWS (io), P10 IO (io), P12 VCCIO (power), R1 IO (io), R2 IO (io), R3 IO (io), R4 IO (io), R5 IO (io), R6 IO (io), R7 IO (io), R8 DEV_OE (io), R9 DEV_CLRn (io), R10 IO (io), T1 IO (io), T2 IO (io), T3 IO (io), T4 IO (io), T5 IO (io), T6 CS (io), T7 IO (io), T8 IO (io), T10 VCCIO (power), U1 IO (io), U2 IO (io), U3 IO (io), U4 IO (io), U5 IO (io), U6 LOCK (io), U7 IO (io), U8 IO (io), V1 IO (io), V2 IO (io), V3 IO (io), V4 IO (io), V5 IO (io), V6 IO (io), V7 IO (io), W1 IO (io), W2 IO (io), W3 IO (io), W4 IO (io), W5 IO (io), W6 IO (io), W7 IO (io), Y1 IO (io), Y2 IO (io), Y5 IO (io), Y6 IO (io)
part E pins: AA12 CONF_DONE (io), AA13 nSTATUS (io), AA14 TCK (in), AA15 TMS (in), F14 TRST (in), G13 TDO (out), G14 nCEO (out), N6 DATA0 (in), N7 DCLK (in), N20 MSEL1 (in), N21 MSEL0 (in), P6 nCE (in), P7 TDI (in), P21 nCONFIG (in)
part F pins: A2 GNDINT (power), A3 VCCINT (power), A8 GNDINT (power), A14 GNDINT (power), A15 NC, A16 NC, A19 GNDINT (power), A24 VCCINT (power), A25 GNDINT (power), AC3 VCCINT (power), AC4 GNDINT (power), AC23 GNDINT (power), AC24 VCCINT (power), AD1 VCCINT (power), AD2 VCCINT (power), AD3 GNDINT (power), AD11 NC, AD12 NC, AD13 GNDINT (power), AD14 NC, AD15 NC, AD16 NC, AD24 GNDINT (power), AD25 VCCINT (power), AD26 VCCINT (power), AE1 GNDINT (power), AE2 GNDINT (power), AE3 VCCINT (power), AE6 GNDINT (power), AE8 VCCINT (power), AE12 NC, AE13 NC, AE14 NC, AE15 NC, AE19 VCCINT (power), AE21 GNDINT (power), AE24 VCCINT (power), AE25 GNDINT (power), AE26 GNDINT (power), AF2 GNDINT (power), AF3 VCCINT (power), AF8 GNDINT (power), AF12 NC, AF14 GNDINT (power), AF15 NC, AF19 GNDINT (power), AF24 VCCINT (power), AF25 GNDINT (power), B1 GNDINT (power), B2 GNDINT (power), B3 VCCINT (power), B6 GNDINT (power), B8 VCCINT (power), B13 NC, B14 NC, B15 NC, B16 NC, B19 VCCINT (power), B21 GNDINT (power), B24 VCCINT (power), B25 GNDINT (power), B26 GNDINT (power), C1 VCCINT (power), C2 VCCINT (power), C3 GNDINT (power), C11 NC, C12 NC, C13 GNDINT (power), C14 NC, C15 NC, C16 NC, C24 GNDINT (power), C25 VCCINT (power), C26 VCCINT (power), D3 VCCINT (power), D4 GNDINT (power), D23 GNDINT (power), D24 VCCINT (power), H8 GNDINT (power), H19 GNDINT (power), J9 GNDINT (power), J18 GNDINT (power), K10 GNDINT (power), K11 VCCINT (power), K17 GNDINT (power), L10 VCCINT (power), L11 GNDINT (power), L13 GNDINT (power), L15 VCCINT (power), L16 GNDINT (power), M12 GNDINT (power), M13 VCCINT (power), M15 GNDINT (power), M16 VCCINT (power), N1 GNDINT (power), N2 VCCINT (power), N4 GNDINT (power), N11 VCC_CKLK (power), N12 VCCINT (power), N13 GNDINT (power), N14 GNDINT (power), N25 GNDINT (power), N26 GNDINT (power), P1 GNDINT (power), P2 GNDINT (power), P3 GNDINT (power), P11 GND_CKLK (power), P13 GNDINT (power), P14 GNDINT (power), P15 VCCINT (power), P16 VCCINT (power), P23 GNDINT (power), P24 VCCINT (power), P25 VCCINT (power), P26 GNDINT (power), R11 VCCINT (power), R12 GNDINT (power), R14 VCCINT (power), R15 GNDINT (power), T11 GNDINT (power), T12 VCCINT (power), T16 GNDINT (power), T17 VCCINT (power), U9 VCCINT (power), U10 GNDINT (power), U16 VCCINT (power), U17 GNDINT (power), V9 GNDINT (power), V18 GNDINT (power), W8 GNDINT (power), W19 GNDINT (power)

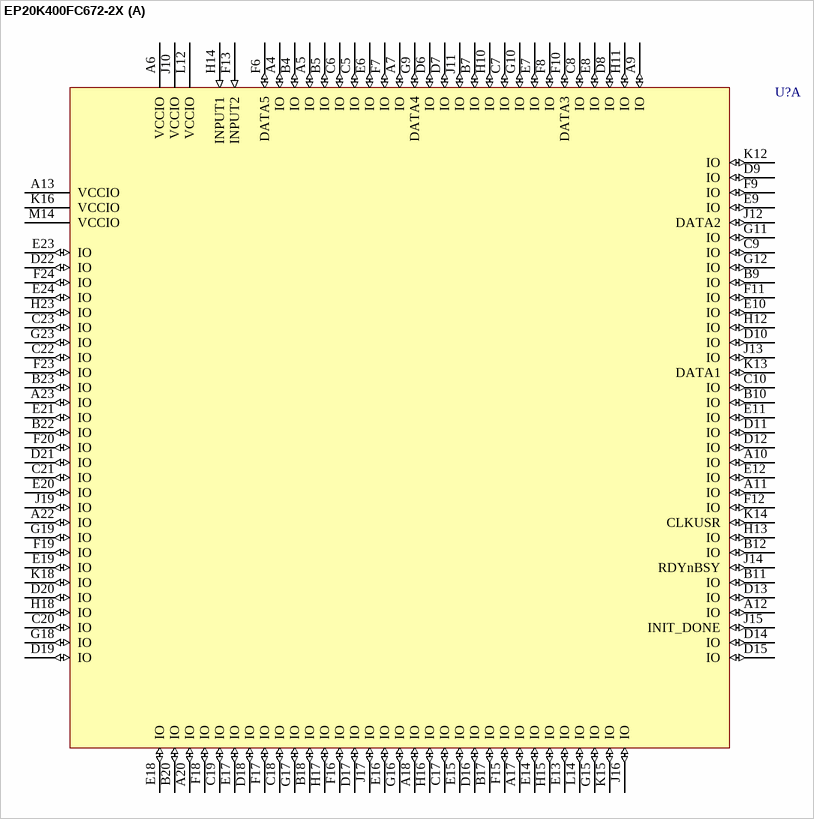
[diagram p163: symbol EP20K400FC672-2X]

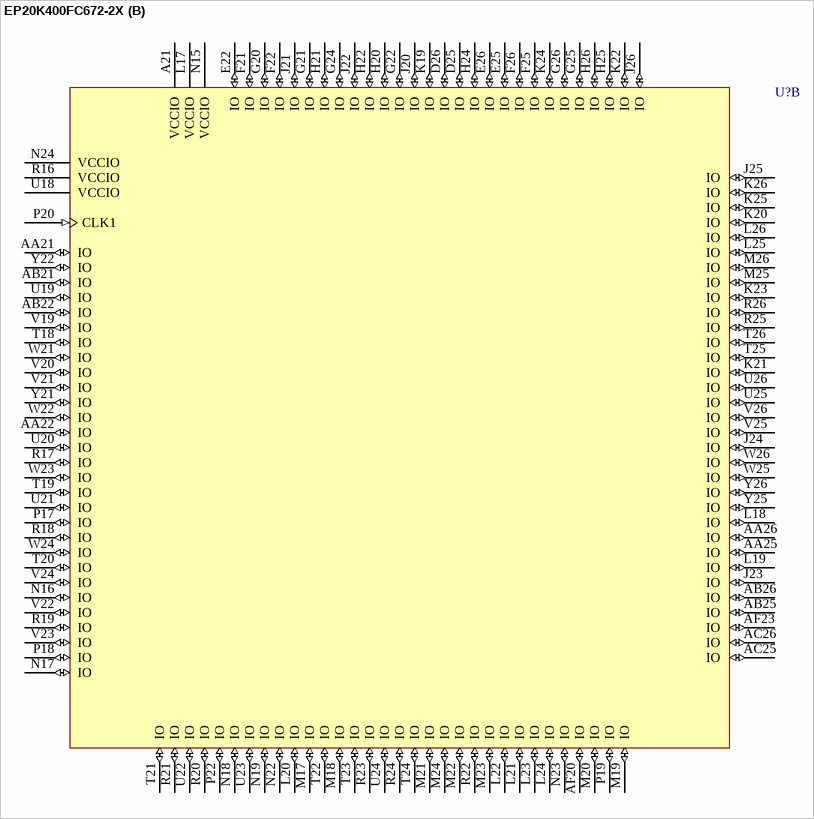
[diagram p164: symbol EP20K400FC672-2X]

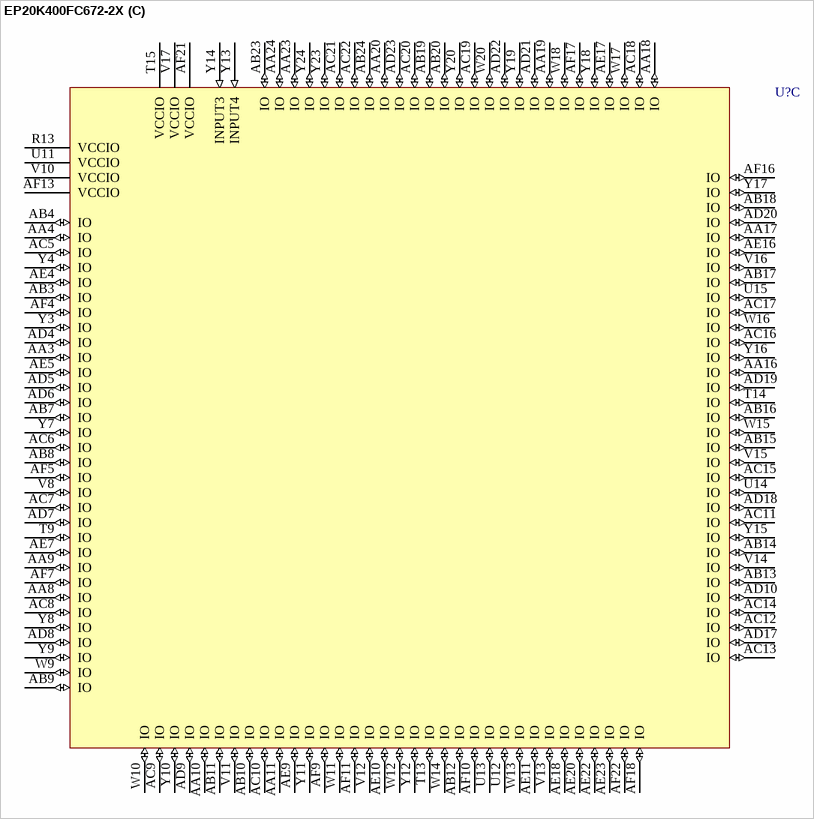
[diagram p165: symbol EP20K400FC672-2X]

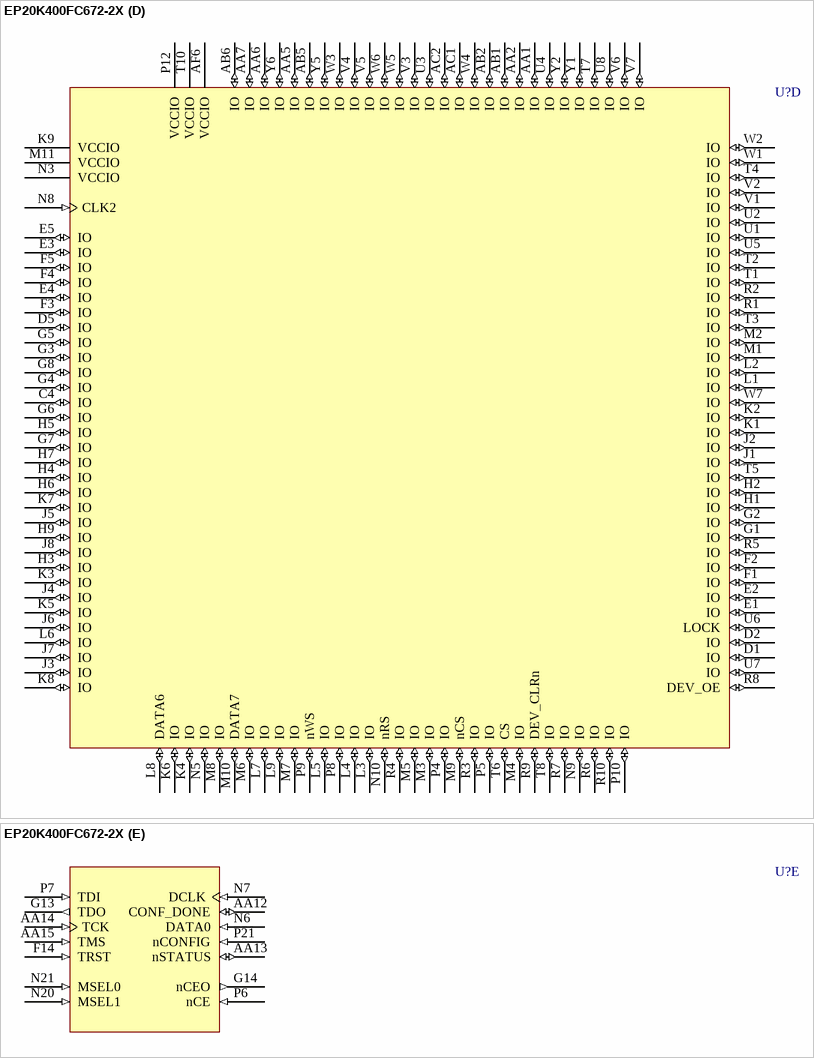
[diagram p166: symbol EP20K400FC672-2X]

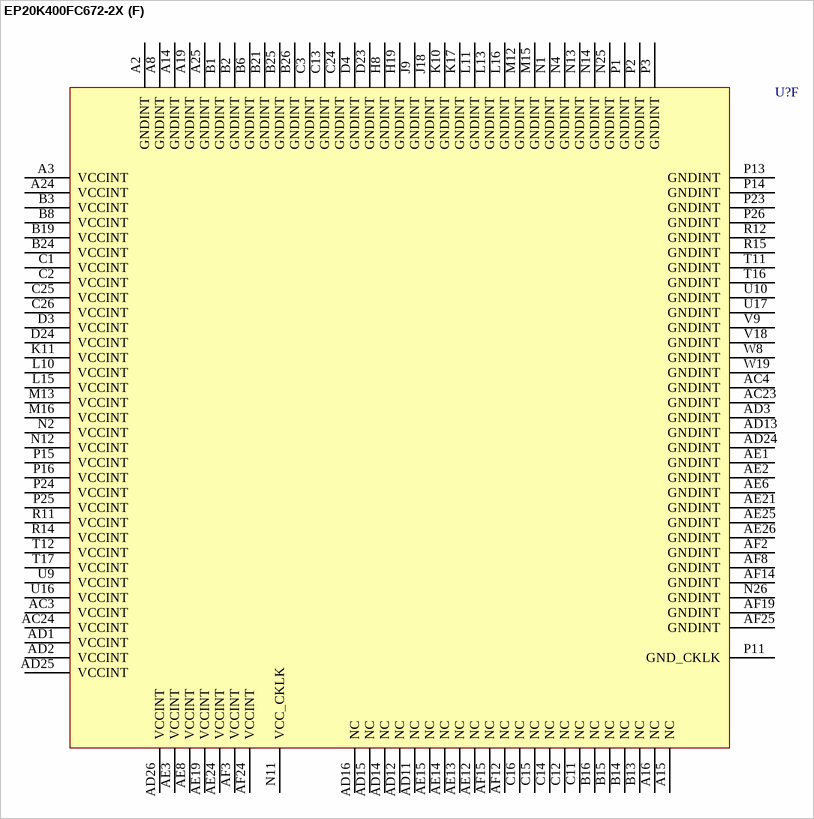
[diagram p167: symbol EP20K400FC672-2X]

## EP20K400FC672-2X
designator U?
APEX 20K400 PLD with PLLs, 672-Pin FBGA, Commercial Grade, Speed Grade 2; Published: 17-Jul-2002; LatestRevisionDate: 13-Apr-2006; LatestRevisionNote: IPC-7351 Footprint Added.; DatasheetVersion: Mar-2004; PackageVersion: ver14.1, Oct-2005; PackageReference: FBGA672; Publisher: Altium Limited; PackageDescription: 672-Ball FineLine Ball Grid Array (FBGA672) - Flip Chip; Code_JEDEC: MS-034-AAL-1; ComponentLink1Description: Manufacturer Link; ComponentLink1URL: http://www.altera.com/products/devices/apex/apx-index.html; ComponentLink2Description: Datasheet; ComponentLink2URL: http://www.altera.com/literature/ds/apex.pdf
footprint FBGA672 (BGA, 672-Leads, Body 27x27mm, Pitch 1mm)
3D model EP20K400-FBGA672T (672-Ball FineLine Ball Grid Array (FBGA672) - Flip Chip)
part A pins: A4 IO (io), A5 IO (io), A6 VCCIO (power), A7 IO (io), A9 IO (io), A10 IO (io), A11 IO (io), A12 IO (io), A13 VCCIO (power), A17 IO (io), A18 IO (io), A20 IO (io), A22 IO (io), A23 IO (io), B4 IO (io), B5 IO (io), B7 IO (io), B9 IO (io), B10 IO (io), B11 IO (io), B12 IO (io), B17 IO (io), B18 IO (io), B20 IO (io), B22 IO (io), B23 IO (io), C5 IO (io), C6 IO (io), C7 IO (io), C8 IO (io), C9 IO (io), C10 IO (io), C17 IO (io), C18 IO (io), C19 IO (io), C20 IO (io), C21 IO (io), C22 IO (io), C23 IO (io), D6 IO (io), D7 IO (io), D8 IO (io), D9 IO (io), D10 IO (io), D11 IO (io), D12 IO (io), D13 IO (io), D14 IO (io), D15 IO (io), D16 IO (io), D17 IO (io), D18 IO (io), D19 IO (io), D20 IO (io), D21 IO (io), D22 IO (io), E6 IO (io), E7 IO (io), E8 IO (io), E9 IO (io), E10 IO (io), E11 IO (io), E12 IO (io), E13 IO (io), E14 IO (io), E15 IO (io), E16 IO (io), E17 IO (io), E18 IO (io), E19 IO (io), E20 IO (io), E21 IO (io), E23 IO (io), E24 IO (io), F6 DATA5 (io), F7 IO (io), F8 IO (io), F9 IO (io), F10 DATA3 (io), F11 IO (io), F12 IO (io), F13 INPUT2 (in), F15 IO (io), F16 IO (io), F17 IO (io), F18 IO (io), F19 IO (io), F20 IO (io), F23 IO (io), F24 IO (io), G9 DATA4 (io), G10 IO (io), G11 IO (io), G12 IO (io), G15 IO (io), G16 IO (io), G17 IO (io), G18 IO (io), G19 IO (io), G23 IO (io), H10 IO (io), H11 IO (io), H12 IO (io), H13 IO (io), H14 INPUT1 (in), H15 IO (io), H16 IO (io), H17 IO (io), H18 IO (io), H23 IO (io), J10 VCCIO (power), J11 IO (io), J12 DATA2 (io), J13 IO (io), J14 RDYnBSY (io), J15 INIT_DONE (io), J16 IO (io), J17 IO (io), J19 IO (io), K12 IO (io), K13 DATA1 (io), K14 CLKUSR (io), K15 IO (io), K16 VCCIO (power), K18 IO (io), L12 VCCIO (power), L14 IO (io), M14 VCCIO (power)
part B pins: A21 VCCIO (power), AA21 IO (io), AA22 IO (io), AA25 IO (io), AA26 IO (io), AB21 IO (io), AB22 IO (io), AB25 IO (io), AB26 IO (io), AC25 IO (io), AC26 IO (io), AF20 IO (io), AF23 IO (io), D25 IO (io), D26 IO (io), E22 IO (io), E25 IO (io), E26 IO (io), F21 IO (io), F22 IO (io), F25 IO (io), F26 IO (io), G20 IO (io), G21 IO (io), G22 IO (io), G24 IO (io), G25 IO (io), G26 IO (io), H20 IO (io), H21 IO (io), H22 IO (io), H24 IO (io), H25 IO (io), H26 IO (io), J20 IO (io), J21 IO (io), J22 IO (io), J23 IO (io), J24 IO (io), J25 IO (io), J26 IO (io), K19 IO (io), K20 IO (io), K21 IO (io), K22 IO (io), K23 IO (io), K24 IO (io), K25 IO (io), K26 IO (io), L17 VCCIO (power), L18 IO (io), L19 IO (io), L20 IO (io), L21 IO (io), L22 IO (io), L23 IO (io), L24 IO (io), L25 IO (io), L26 IO (io), M17 IO (io), M18 IO (io), M19 IO (io), M20 IO (io), M21 IO (io), M22 IO (io), M23 IO (io), M24 IO (io), M25 IO (io), M26 IO (io), N15 VCCIO (power), N16 IO (io), N17 IO (io), N18 IO (io), N19 IO (io), N22 IO (io), N23 IO (io), N24 VCCIO (power), P17 IO (io), P18 IO (io), P19 IO (io), P20 CLK1 (in), P22 IO (io), R16 VCCIO (power), R17 IO (io), R18 IO (io), R19 IO (io), R20 IO (io), R21 IO (io), R22 IO (io), R23 IO (io), R24 IO (io), R25 IO (io), R26 IO (io), T18 IO (io), T19 IO (io), T20 IO (io), T21 IO (io), T22 IO (io), T23 IO (io), T24 IO (io), T25 IO (io), T26 IO (io), U18 VCCIO (power), U19 IO (io), U20 IO (io), U21 IO (io), U22 IO (io), U23 IO (io), U24 IO (io), U25 IO (io), U26 IO (io), V19 IO (io), V20 IO (io), V21 IO (io), V22 IO (io), V23 IO (io), V24 IO (io), V25 IO (io), V26 IO (io), W21 IO (io), W22 IO (io), W23 IO (io), W24 IO (io), W25 IO (io), W26 IO (io), Y21 IO (io), Y22 IO (io), Y25 IO (io), Y26 IO (io)
part C pins: AA3 IO (io), AA4 IO (io), AA8 IO (io), AA9 IO (io), AA10 IO (io), AA11 IO (io), AA16 IO (io), AA17 IO (io), AA18 IO (io), AA19 IO (io), AA20 IO (io), AA23 IO (io), AA24 IO (io), AB3 IO (io), AB4 IO (io), AB7 IO (io), AB8 IO (io), AB9 IO (io), AB10 IO (io), AB11 IO (io), AB12 IO (io), AB13 IO (io), AB14 IO (io), AB15 IO (io), AB16 IO (io), AB17 IO (io), AB18 IO (io), AB19 IO (io), AB20 IO (io), AB23 IO (io), AB24 IO (io), AC5 IO (io), AC6 IO (io), AC7 IO (io), AC8 IO (io), AC9 IO (io), AC10 IO (io), AC11 IO (io), AC12 IO (io), AC13 IO (io), AC14 IO (io), AC15 IO (io), AC16 IO (io), AC17 IO (io), AC18 IO (io), AC19 IO (io), AC20 IO (io), AC21 IO (io), AC22 IO (io), AD4 IO (io), AD5 IO (io), AD6 IO (io), AD7 IO (io), AD8 IO (io), AD9 IO (io), AD10 IO (io), AD17 IO (io), AD18 IO (io), AD19 IO (io), AD20 IO (io), AD21 IO (io), AD22 IO (io), AD23 IO (io), AE4 IO (io), AE5 IO (io), AE7 IO (io), AE9 IO (io), AE10 IO (io), AE11 IO (io), AE16 IO (io), AE17 IO (io), AE18 IO (io), AE20 IO (io), AE22 IO (io), AE23 IO (io), AF4 IO (io), AF5 IO (io), AF7 IO (io), AF9 IO (io), AF10 IO (io), AF11 IO (io), AF13 VCCIO (power), AF16 IO (io), AF17 IO (io), AF18 IO (io), AF21 VCCIO (power), AF22 IO (io), R13 VCCIO (power), T9 IO (io), T13 IO (io), T14 IO (io), T15 VCCIO (power), U11 VCCIO (power), U12 IO (io), U13 IO (io), U14 IO (io), U15 IO (io), V8 IO (io), V10 VCCIO (power), V11 IO (io), V12 IO (io), V13 IO (io), V14 IO (io), V15 IO (io), V16 IO (io), V17 VCCIO (power), W9 IO (io), W10 IO (io), W11 IO (io), W12 IO (io), W13 IO (io), W14 IO (io), W15 IO (io), W16 IO (io), W17 IO (io), W18 IO (io), W20 IO (io), Y3 IO (io), Y4 IO (io), Y7 IO (io), Y8 IO (io), Y9 IO (io), Y10 IO (io), Y11 IO (io), Y12 IO (io), Y13 INPUT4 (in), Y14 INPUT3 (in), Y15 IO (io), Y16 IO (io), Y17 IO (io), Y18 IO (io), Y19 IO (io), Y20 IO (io), Y23 IO (io), Y24 IO (io)
part D pins: AA1 IO (io), AA2 IO (io), AA5 IO (io), AA6 IO (io), AA7 IO (io), AB1 IO (io), AB2 IO (io), AB5 IO (io), AB6 IO (io), AC1 IO (io), AC2 IO (io), AF6 VCCIO (power), C4 IO (io), D1 IO (io), D2 IO (io), D5 IO (io), E1 IO (io), E2 IO (io), E3 IO (io), E4 IO (io), E5 IO (io), F1 IO (io), F2 IO (io), F3 IO (io), F4 IO (io), F5 IO (io), G1 IO (io), G2 IO (io), G3 IO (io), G4 IO (io), G5 IO (io), G6 IO (io), G7 IO (io), G8 IO (io), H1 IO (io), H2 IO (io), H3 IO (io), H4 IO (io), H5 IO (io), H6 IO (io), H7 IO (io), H9 IO (io), J1 IO (io), J2 IO (io), J3 IO (io), J4 IO (io), J5 IO (io), J6 IO (io), J7 IO (io), J8 IO (io), K1 IO (io), K2 IO (io), K3 IO (io), K4 IO (io), K5 IO (io), K6 IO (io), K7 IO (io), K8 IO (io), K9 VCCIO (power), L1 IO (io), L2 IO (io), L3 IO (io), L4 IO (io), L5 IO (io), L6 IO (io), L7 IO (io), L8 DATA6 (io), L9 IO (io), M1 IO (io), M2 IO (io), M3 IO (io), M4 IO (io), M5 IO (io), M6 IO (io), M7 IO (io), M8 IO (io), M9 nCS (io), M10 DATA7 (io), M11 VCCIO (power), N3 VCCIO (power), N5 IO (io), N8 CLK2 (in), N9 IO (io), N10 nRS (io), P4 IO (io), P5 IO (io), P8 IO (io), P9 nWS (io), P10 IO (io), P12 VCCIO (power), R1 IO (io), R2 IO (io), R3 IO (io), R4 IO (io), R5 IO (io), R6 IO (io), R7 IO (io), R8 DEV_OE (io), R9 DEV_CLRn (io), R10 IO (io), T1 IO (io), T2 IO (io), T3 IO (io), T4 IO (io), T5 IO (io), T6 CS (io), T7 IO (io), T8 IO (io), T10 VCCIO (power), U1 IO (io), U2 IO (io), U3 IO (io), U4 IO (io), U5 IO (io), U6 LOCK (io), U7 IO (io), U8 IO (io), V1 IO (io), V2 IO (io), V3 IO (io), V4 IO (io), V5 IO (io), V6 IO (io), V7 IO (io), W1 IO (io), W2 IO (io), W3 IO (io), W4 IO (io), W5 IO (io), W6 IO (io), W7 IO (io), Y1 IO (io), Y2 IO (io), Y5 IO (io), Y6 IO (io)
part E pins: AA12 CONF_DONE (io), AA13 nSTATUS (io), AA14 TCK (in), AA15 TMS (in), F14 TRST (in), G13 TDO (out), G14 nCEO (out), N6 DATA0 (in), N7 DCLK (in), N20 MSEL1 (in), N21 MSEL0 (in), P6 nCE (in), P7 TDI (in), P21 nCONFIG (in)
part F pins: A2 GNDINT (power), A3 VCCINT (power), A8 GNDINT (power), A14 GNDINT (power), A15 NC, A16 NC, A19 GNDINT (power), A24 VCCINT (power), A25 GNDINT (power), AC3 VCCINT (power), AC4 GNDINT (power), AC23 GNDINT (power), AC24 VCCINT (power), AD1 VCCINT (power), AD2 VCCINT (power), AD3 GNDINT (power), AD11 NC, AD12 NC, AD13 GNDINT (power), AD14 NC, AD15 NC, AD16 NC, AD24 GNDINT (power), AD25 VCCINT (power), AD26 VCCINT (power), AE1 GNDINT (power), AE2 GNDINT (power), AE3 VCCINT (power), AE6 GNDINT (power), AE8 VCCINT (power), AE12 NC, AE13 NC, AE14 NC, AE15 NC, AE19 VCCINT (power), AE21 GNDINT (power), AE24 VCCINT (power), AE25 GNDINT (power), AE26 GNDINT (power), AF2 GNDINT (power), AF3 VCCINT (power), AF8 GNDINT (power), AF12 NC, AF14 GNDINT (power), AF15 NC, AF19 GNDINT (power), AF24 VCCINT (power), AF25 GNDINT (power), B1 GNDINT (power), B2 GNDINT (power), B3 VCCINT (power), B6 GNDINT (power), B8 VCCINT (power), B13 NC, B14 NC, B15 NC, B16 NC, B19 VCCINT (power), B21 GNDINT (power), B24 VCCINT (power), B25 GNDINT (power), B26 GNDINT (power), C1 VCCINT (power), C2 VCCINT (power), C3 GNDINT (power), C11 NC, C12 NC, C13 GNDINT (power), C14 NC, C15 NC, C16 NC, C24 GNDINT (power), C25 VCCINT (power), C26 VCCINT (power), D3 VCCINT (power), D4 GNDINT (power), D23 GNDINT (power), D24 VCCINT (power), H8 GNDINT (power), H19 GNDINT (power), J9 GNDINT (power), J18 GNDINT (power), K10 GNDINT (power), K11 VCCINT (power), K17 GNDINT (power), L10 VCCINT (power), L11 GNDINT (power), L13 GNDINT (power), L15 VCCINT (power), L16 GNDINT (power), M12 GNDINT (power), M13 VCCINT (power), M15 GNDINT (power), M16 VCCINT (power), N1 GNDINT (power), N2 VCCINT (power), N4 GNDINT (power), N11 VCC_CKLK (power), N12 VCCINT (power), N13 GNDINT (power), N14 GNDINT (power), N25 GNDINT (power), N26 GNDINT (power), P1 GNDINT (power), P2 GNDINT (power), P3 GNDINT (power), P11 GND_CKLK (power), P13 GNDINT (power), P14 GNDINT (power), P15 VCCINT (power), P16 VCCINT (power), P23 GNDINT (power), P24 VCCINT (power), P25 VCCINT (power), P26 GNDINT (power), R11 VCCINT (power), R12 GNDINT (power), R14 VCCINT (power), R15 GNDINT (power), T11 GNDINT (power), T12 VCCINT (power), T16 GNDINT (power), T17 VCCINT (power), U9 VCCINT (power), U10 GNDINT (power), U16 VCCINT (power), U17 GNDINT (power), V9 GNDINT (power), V18 GNDINT (power), W8 GNDINT (power), W19 GNDINT (power)

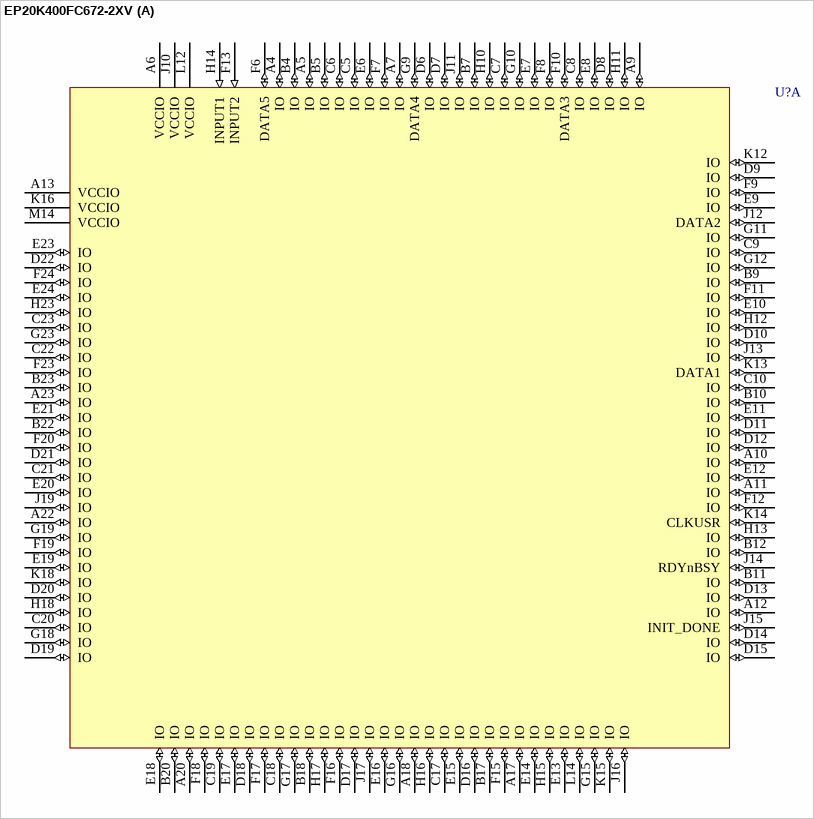
[diagram p168: symbol EP20K400FC672-2XV]

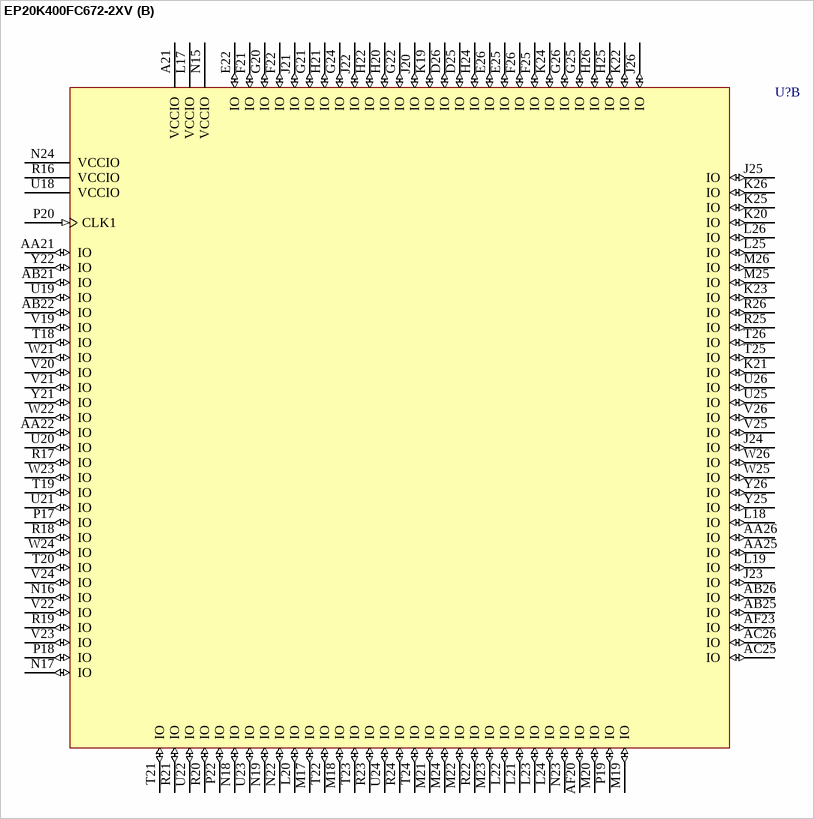
[diagram p169: symbol EP20K400FC672-2XV]

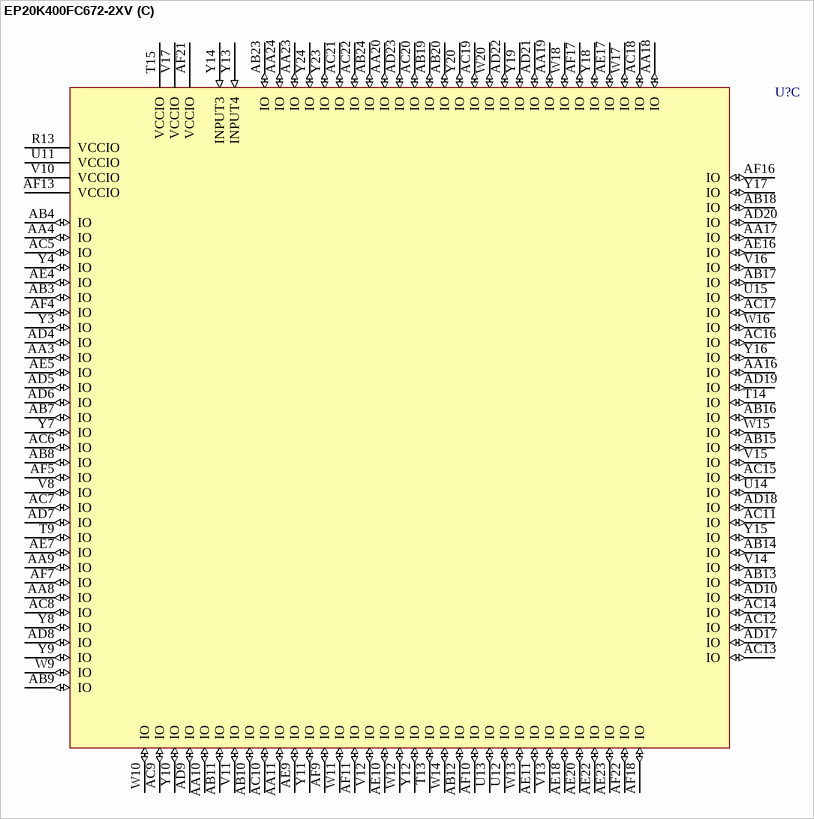
[diagram p170: symbol EP20K400FC672-2XV]

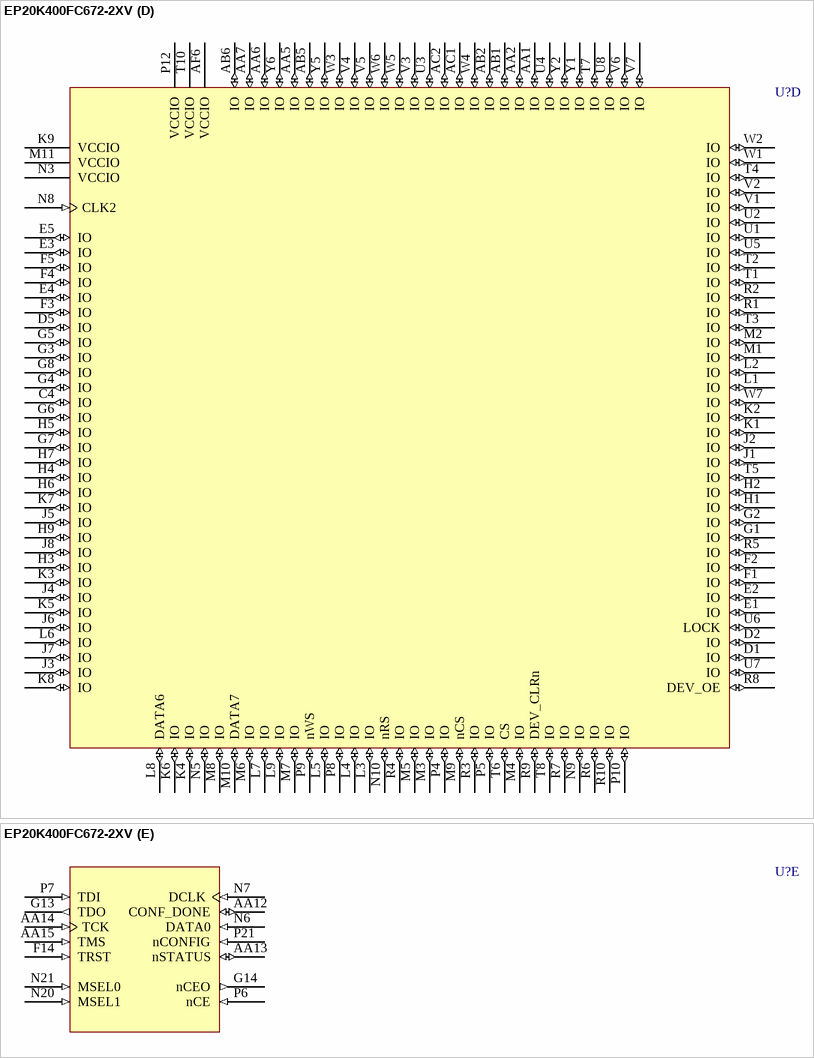
[diagram p171: symbol EP20K400FC672-2XV]

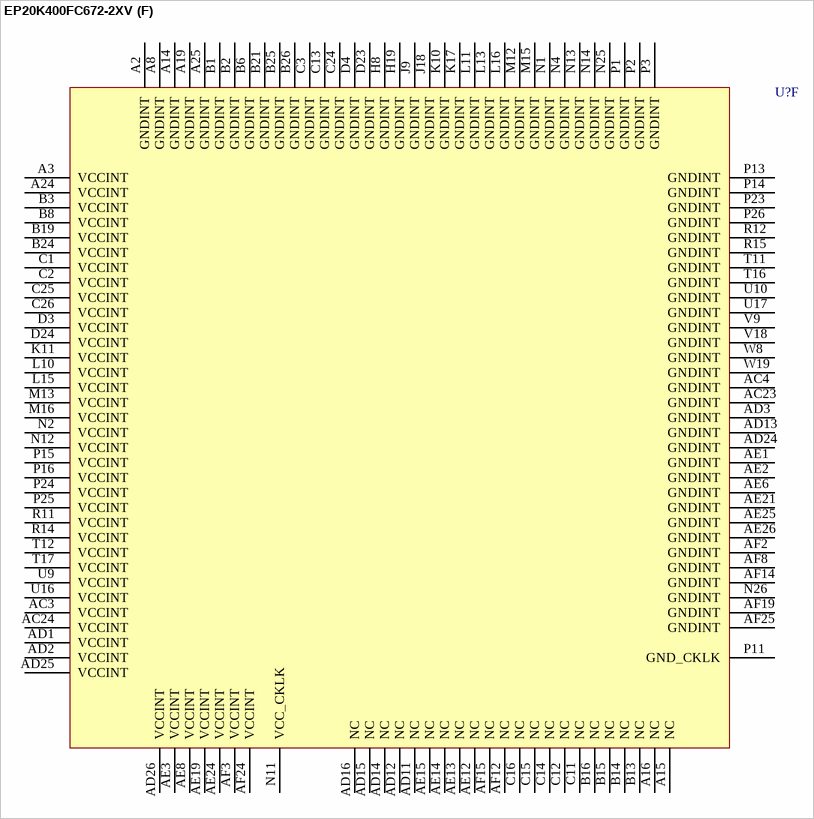
[diagram p172: symbol EP20K400FC672-2XV]